# Altium schematic symbol library 40xx.SCHLIB: 174 symbols
Pins are listed as number, name and electrical type; pins without a type are passive.

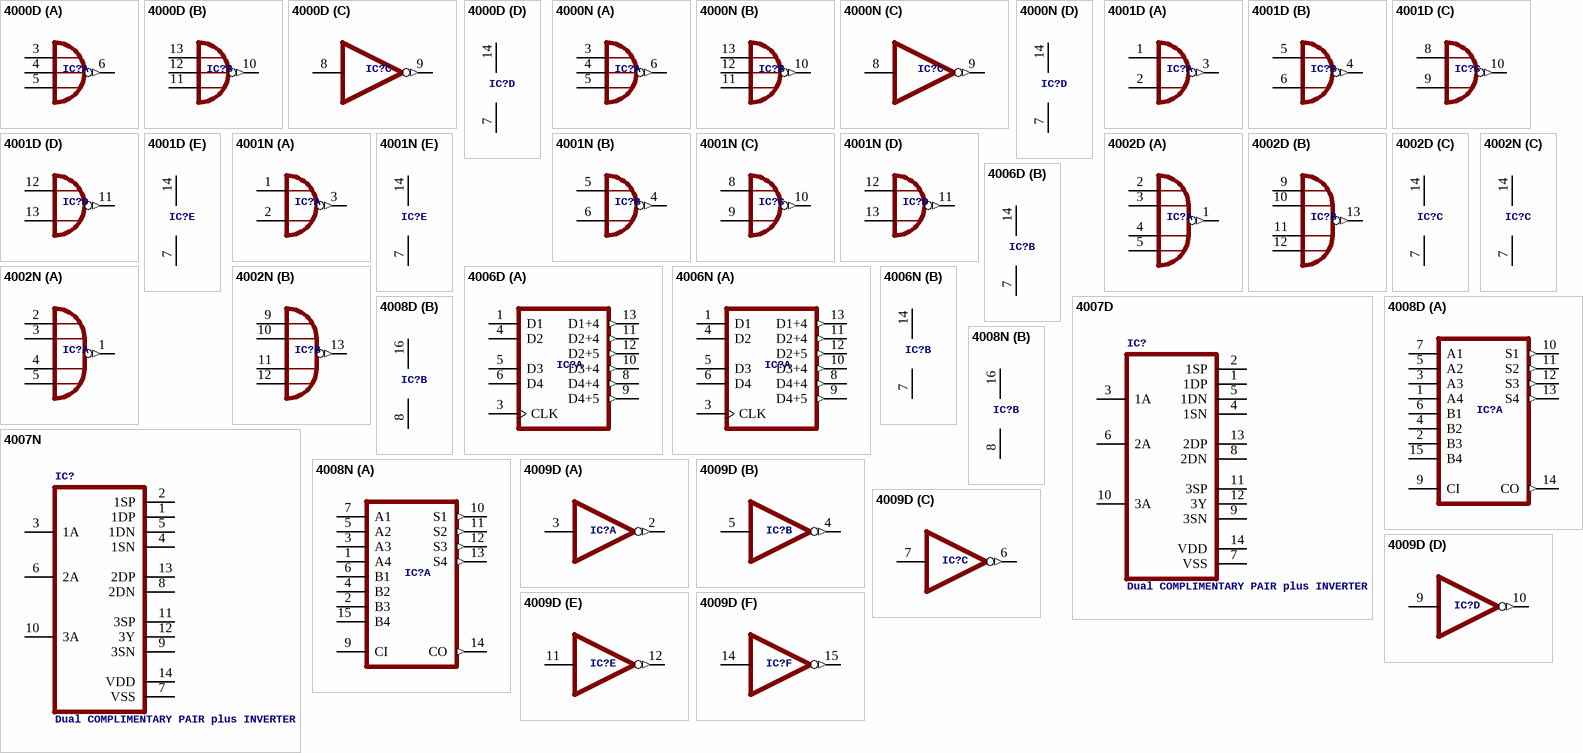
[diagram p0: symbols 4000D to 4009D]

## 4000D
designator IC?, comment Dual 3-input NOR & INVERTER  (value not drawn)
footprint SO14
part A pins: 3 I0, 4 I1, 5 I2, 6 O (out)
part B pins: 10 O (out), 11 I2, 12 I1, 13 I0
part C pins: 8 I, 9 O (out)
part D pins: 7 VSS (power), 14 VDD (power)

## 4000N
designator IC?, comment Dual 3-input NOR & INVERTER  (value not drawn)
footprint DIL14
part A pins: 3 I0, 4 I1, 5 I2, 6 O (out)
part B pins: 10 O (out), 11 I2, 12 I1, 13 I0
part C pins: 8 I, 9 O (out)
part D pins: 7 VSS (power), 14 VDD (power)

## 4001D
designator IC?, comment Quad 2-input NOR  (value not drawn)
footprint SO14
part A pins: 1 I0, 2 I1, 3 O (out)
part B pins: 4 O (out), 5 I0, 6 I1
part C pins: 8 I0, 9 I1, 10 O (out)
part D pins: 11 O (out), 12 I0, 13 I1
part E pins: 7 VSS (power), 14 VDD (power)

## 4001N
designator IC?, comment Quad 2-input NOR  (value not drawn)
footprint DIL14
part A pins: 1 I0, 2 I1, 3 O (out)
part B pins: 4 O (out), 5 I0, 6 I1
part C pins: 8 I0, 9 I1, 10 O (out)
part D pins: 11 O (out), 12 I0, 13 I1
part E pins: 7 VSS (power), 14 VDD (power)

## 4002D
designator IC?, comment 4-input NOR  (value not drawn)
footprint SO14
part A pins: 1 O (out), 2 I0, 3 I1, 4 I2, 5 I3
part B pins: 9 I0, 10 I1, 11 I2, 12 I3, 13 O (out)
part C pins: 7 VSS (power), 14 VDD (power)

## 4002N
designator IC?, comment 4-input NOR  (value not drawn)
footprint DIL14
part A pins: 1 O (out), 2 I0, 3 I1, 4 I2, 5 I3
part B pins: 9 I0, 10 I1, 11 I2, 12 I3, 13 O (out)
part C pins: 7 VSS (power), 14 VDD (power)

## 4006D
designator IC?, comment 18-bit static SHIFT REGISTER  (value not drawn)
footprint SO14
part A pins: 1 D1, 3 CLK, 4 D2, 5 D3, 6 D4, 8 D4+4 (out), 9 D4+5 (out), 10 D3+4 (out), 11 D2+4 (out), 12 D2+5 (out), 13 D1+4 (out)
part B pins: 7 VSS (power), 14 VDD (power)

## 4006N
designator IC?, comment 18-bit static SHIFT REGISTER  (value not drawn)
footprint DIL14
part A pins: 1 D1, 3 CLK, 4 D2, 5 D3, 6 D4, 8 D4+4 (out), 9 D4+5 (out), 10 D3+4 (out), 11 D2+4 (out), 12 D2+5 (out), 13 D1+4 (out)
part B pins: 7 VSS (power), 14 VDD (power)

## 4007D
designator IC?, comment Dual COMPLIMENTARY PAIR plus INVERTER
footprint SO14
pins: 1 1DP (oc), 2 1SP (oc), 3 1A, 4 1SN (oc), 5 1DN (oc), 6 2A, 7 VSS, 8 2DN, 9 3SN, 10 3A, 11 3SP, 12 3Y, 13 2DP, 14 VDD

## 4007N
designator IC?, comment Dual COMPLIMENTARY PAIR plus INVERTER
footprint DIL14
pins: 1 1DP (oc), 2 1SP (oc), 3 1A, 4 1SN (oc), 5 1DN (oc), 6 2A, 7 VSS, 8 2DN, 9 3SN, 10 3A, 11 3SP, 12 3Y, 13 2DP, 14 VDD

## 4008D
designator IC?, comment 4-bit full ADDER  (value not drawn)
footprint SO16
part A pins: 1 A4, 2 B3, 3 A3, 4 B2, 5 A2, 6 B1, 7 A1, 9 CI, 10 S1 (out), 11 S2 (out), 12 S3 (out), 13 S4 (out), 14 CO (out), 15 B4
part B pins: 8 VSS (power), 16 VDD (power)

## 4008N
designator IC?, comment 4-bit full ADDER  (value not drawn)
footprint DIL16
part A pins: 1 A4, 2 B3, 3 A3, 4 B2, 5 A2, 6 B1, 7 A1, 9 CI, 10 S1 (out), 11 S2 (out), 12 S3 (out), 13 S4 (out), 14 CO (out), 15 B4
part B pins: 8 VSS (power), 16 VDD (power)

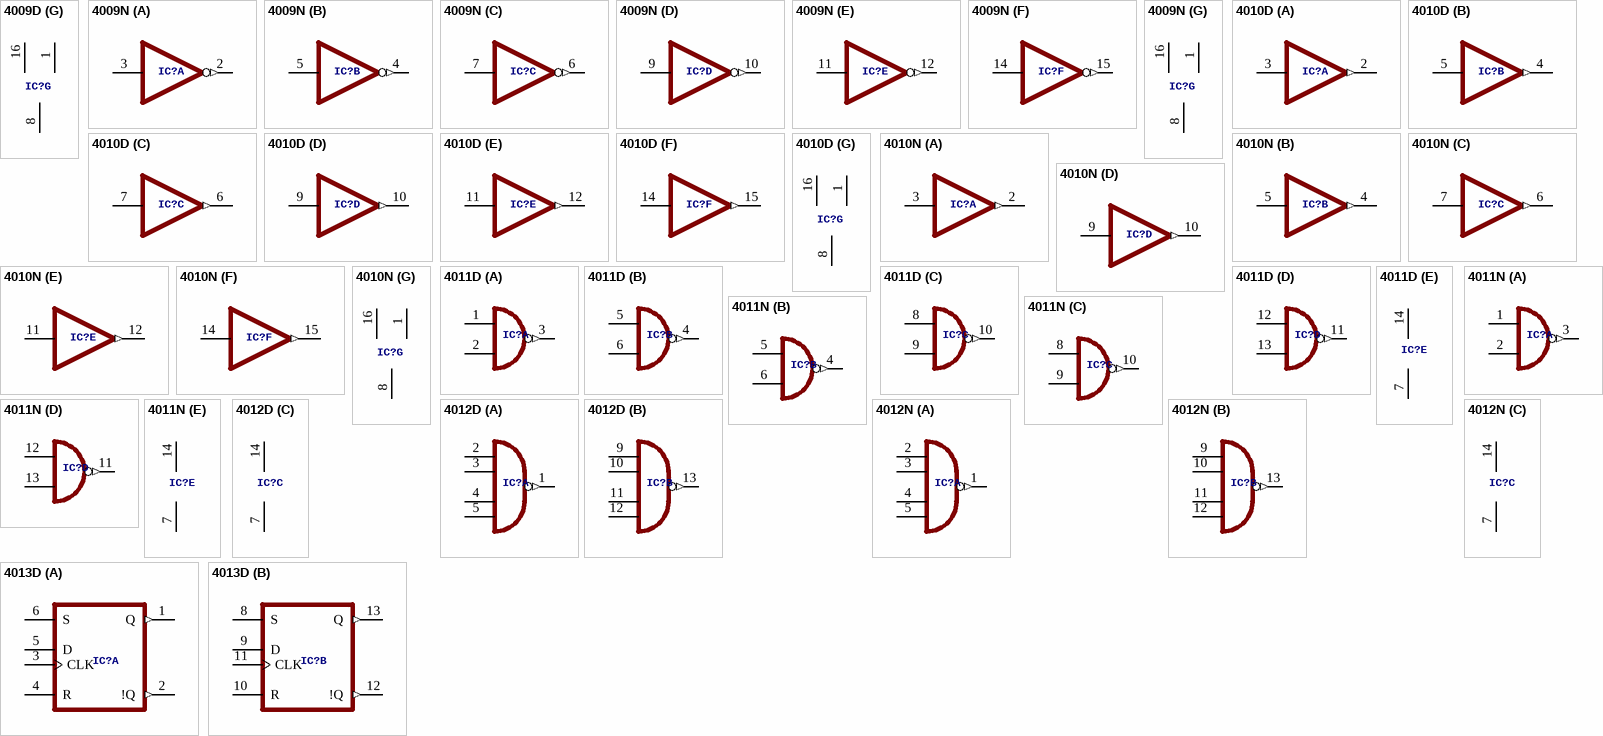
[diagram p1: symbols 4009D to 4013D]

## 4009D
designator IC?, comment Hex BUFFER, inverting  (value not drawn)
footprint SO16
part A pins: 2 O (out), 3 I
part B pins: 4 O (out), 5 I
part C pins: 6 O (out), 7 I
part D pins: 9 I, 10 O (out)
part E pins: 11 I, 12 O (out)
part F pins: 14 I, 15 O (out)
part G pins: 1 VCC (power), 8 VSS (power), 16 VDD (power)

## 4009N
designator IC?, comment Hex BUFFER, inverting  (value not drawn)
footprint DIL16
part A pins: 2 O (out), 3 I
part B pins: 4 O (out), 5 I
part C pins: 6 O (out), 7 I
part D pins: 9 I, 10 O (out)
part E pins: 11 I, 12 O (out)
part F pins: 14 I, 15 O (out)
part G pins: 1 VCC (power), 8 VSS (power), 16 VDD (power)

## 4010D
designator IC?, comment Hex BUFFER, non-inverting   Source: www.fairchildsemi.com CD4010.pdf  Â© 2000 Fairchild Semiconductor Corporation DS005945  (value not drawn)
footprint SO16
part A pins: 2 O (out), 3 I
part B pins: 4 O (out), 5 I
part C pins: 6 O (out), 7 I
part D pins: 9 I, 10 O (out)
part E pins: 11 I, 12 O (out)
part F pins: 14 I, 15 O (out)
part G pins: 1 VCC (power), 8 VSS (power), 16 VDD (power)

## 4010N
designator IC?, comment Hex BUFFER, non-inverting   Source: www.fairchildsemi.com CD4010.pdf  Â© 2000 Fairchild Semiconductor Corporation DS005945  (value not drawn)
footprint DIL16
part A pins: 2 O (out), 3 I
part B pins: 4 O (out), 5 I
part C pins: 6 O (out), 7 I
part D pins: 9 I, 10 O (out)
part E pins: 11 I, 12 O (out)
part F pins: 14 I, 15 O (out)
part G pins: 1 VCC (power), 8 VSS (power), 16 VDD (power)

## 4011D
designator IC?, comment Quad 2-input NAND  (value not drawn)
footprint SO14
part A pins: 1 I0, 2 I1, 3 O (out)
part B pins: 4 O (out), 5 I0, 6 I1
part C pins: 8 I0, 9 I1, 10 O (out)
part D pins: 11 O (out), 12 I0, 13 I1
part E pins: 7 VSS (power), 14 VDD (power)

## 4011N
designator IC?, comment Quad 2-input NAND  (value not drawn)
footprint DIL14
part A pins: 1 I0, 2 I1, 3 O (out)
part B pins: 4 O (out), 5 I0, 6 I1
part C pins: 8 I0, 9 I1, 10 O (out)
part D pins: 11 O (out), 12 I0, 13 I1
part E pins: 7 VSS (power), 14 VDD (power)

## 4012D
designator IC?, comment Dual 4-input NAND  (value not drawn)
footprint SO14
part A pins: 1 O (out), 2 I0, 3 I1, 4 I2, 5 I3
part B pins: 9 I0, 10 I1, 11 I2, 12 I3, 13 O (out)
part C pins: 7 VSS (power), 14 VDD (power)

## 4012N
designator IC?, comment Dual 4-input NAND  (value not drawn)
footprint DIL14
part A pins: 1 O (out), 2 I0, 3 I1, 4 I2, 5 I3
part B pins: 9 I0, 10 I1, 11 I2, 12 I3, 13 O (out)
part C pins: 7 VSS (power), 14 VDD (power)

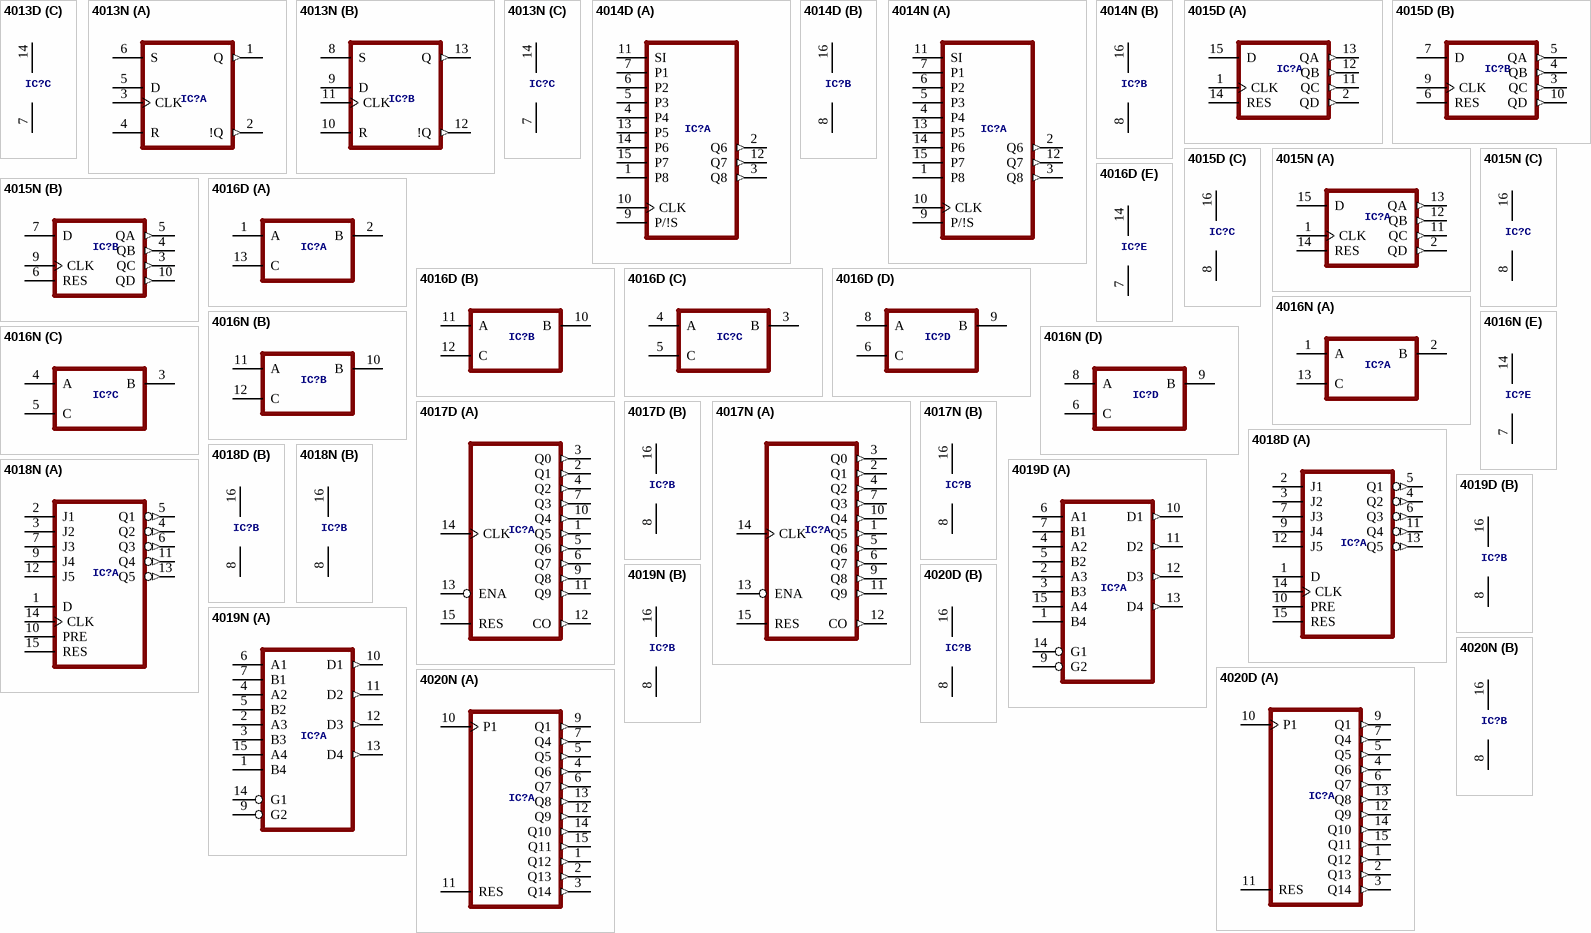
[diagram p2: symbols 4013D to 4020N]

## 4013D
designator IC?, comment Dual D FLIP FLOP, set/reset  (value not drawn)
footprint SO14
part A pins: 1 Q (out), 2 !Q (out), 3 CLK, 4 R, 5 D, 6 S
part B pins: 8 S, 9 D, 10 R, 11 CLK, 12 !Q (out), 13 Q (out)
part C pins: 7 VSS (power), 14 VDD (power)

## 4013N
designator IC?, comment Dual D FLIP FLOP, set/reset  (value not drawn)
footprint DIL14
part A pins: 1 Q (out), 2 !Q (out), 3 CLK, 4 R, 5 D, 6 S
part B pins: 8 S, 9 D, 10 R, 11 CLK, 12 !Q (out), 13 Q (out)
part C pins: 7 VSS (power), 14 VDD (power)

## 4014D
designator IC?, comment 8-bit static SHIFT REGISTER  (value not drawn)
footprint SO16
part A pins: 1 P8, 2 Q6 (out), 3 Q8 (out), 4 P4, 5 P3, 6 P2, 7 P1, 9 P/!S, 10 CLK, 11 SI, 12 Q7 (out), 13 P5, 14 P6, 15 P7
part B pins: 8 VSS (power), 16 VDD (power)

## 4014N
designator IC?, comment 8-bit static SHIFT REGISTER  (value not drawn)
footprint DIL16
part A pins: 1 P8, 2 Q6 (out), 3 Q8 (out), 4 P4, 5 P3, 6 P2, 7 P1, 9 P/!S, 10 CLK, 11 SI, 12 Q7 (out), 13 P5, 14 P6, 15 P7
part B pins: 8 VSS (power), 16 VDD (power)

## 4015D
designator IC?, comment Dual 4-bit static SHIFT REGISTER  (value not drawn)
footprint SO16
part A pins: 1 CLK, 2 QD (out), 11 QC (out), 12 QB (out), 13 QA (out), 14 RES, 15 D
part B pins: 3 QC (out), 4 QB (out), 5 QA (out), 6 RES, 7 D, 9 CLK, 10 QD (out)
part C pins: 8 VSS (power), 16 VDD (power)

## 4015N
designator IC?, comment Dual 4-bit static SHIFT REGISTER  (value not drawn)
footprint DIL16
part A pins: 1 CLK, 2 QD (out), 11 QC (out), 12 QB (out), 13 QA (out), 14 RES, 15 D
part B pins: 3 QC (out), 4 QB (out), 5 QA (out), 6 RES, 7 D, 9 CLK, 10 QD (out)
part C pins: 8 VSS (power), 16 VDD (power)

## 4016D
designator IC?, comment Quad bilateral ANALOG SWITCH  (value not drawn)
footprint SO14
part A pins: 1 A (hiz), 2 B (hiz), 13 C
part B pins: 10 B (hiz), 11 A (hiz), 12 C
part C pins: 3 B (hiz), 4 A (hiz), 5 C
part D pins: 6 C, 8 A (hiz), 9 B (hiz)
part E pins: 7 VSS (power), 14 VDD (power)

## 4016N
designator IC?, comment Quad bilateral ANALOG SWITCH  (value not drawn)
footprint DIL14
part A pins: 1 A (hiz), 2 B (hiz), 13 C
part B pins: 10 B (hiz), 11 A (hiz), 12 C
part C pins: 3 B (hiz), 4 A (hiz), 5 C
part D pins: 6 C, 8 A (hiz), 9 B (hiz)
part E pins: 7 VSS (power), 14 VDD (power)

## 4017D
designator IC?, comment COUNTER/DIVIDER  (value not drawn)
footprint SO16
part A pins: 1 Q5 (out), 2 Q1 (out), 3 Q0 (out), 4 Q2 (out), 5 Q6 (out), 6 Q7 (out), 7 Q3 (out), 9 Q8 (out), 10 Q4 (out), 11 Q9 (out), 12 CO (out), 13 ENA, 14 CLK, 15 RES
part B pins: 8 VSS (power), 16 VDD (power)

## 4017N
designator IC?, comment COUNTER/DIVIDER  (value not drawn)
footprint DIL16
part A pins: 1 Q5 (out), 2 Q1 (out), 3 Q0 (out), 4 Q2 (out), 5 Q6 (out), 6 Q7 (out), 7 Q3 (out), 9 Q8 (out), 10 Q4 (out), 11 Q9 (out), 12 CO (out), 13 ENA, 14 CLK, 15 RES
part B pins: 8 VSS (power), 16 VDD (power)

## 4018D
designator IC?, comment COUNTER/DIVIDER  (value not drawn)
footprint SO16
part A pins: 1 D, 2 J1, 3 J2, 4 Q2 (out), 5 Q1 (out), 6 Q3 (out), 7 J3, 9 J4, 10 PRE, 11 Q4 (out), 12 J5, 13 Q5 (out), 14 CLK, 15 RES
part B pins: 8 VSS (power), 16 VDD (power)

## 4018N
designator IC?, comment COUNTER/DIVIDER  (value not drawn)
footprint DIL16
part A pins: 1 D, 2 J1, 3 J2, 4 Q2 (out), 5 Q1 (out), 6 Q3 (out), 7 J3, 9 J4, 10 PRE, 11 Q4 (out), 12 J5, 13 Q5 (out), 14 CLK, 15 RES
part B pins: 8 VSS (power), 16 VDD (power)

## 4019D
designator IC?, comment Quad AND-OR select gate  (value not drawn)
footprint SO16
part A pins: 1 B4, 2 A3, 3 B3, 4 A2, 5 B2, 6 A1, 7 B1, 9 G2, 10 D1 (out), 11 D2 (out), 12 D3 (out), 13 D4 (out), 14 G1, 15 A4
part B pins: 8 VSS (power), 16 VDD (power)

## 4019N
designator IC?, comment Quad AND-OR select gate  (value not drawn)
footprint DIL16
part A pins: 1 B4, 2 A3, 3 B3, 4 A2, 5 B2, 6 A1, 7 B1, 9 G2, 10 D1 (out), 11 D2 (out), 12 D3 (out), 13 D4 (out), 14 G1, 15 A4
part B pins: 8 VSS (power), 16 VDD (power)

## 4020D
designator IC?, comment 14-stage binary/ripple COUNTER  (value not drawn)
footprint SO16
part A pins: 1 Q12 (out), 2 Q13 (out), 3 Q14 (out), 4 Q6 (out), 5 Q5 (out), 6 Q7 (out), 7 Q4 (out), 9 Q1 (out), 10 P1, 11 RES, 12 Q9 (out), 13 Q8 (out), 14 Q10 (out), 15 Q11 (out)
part B pins: 8 VSS (power), 16 VDD (power)

## 4020N
designator IC?, comment 14-stage binary/ripple COUNTER  (value not drawn)
footprint DIL16
part A pins: 1 Q12 (out), 2 Q13 (out), 3 Q14 (out), 4 Q6 (out), 5 Q5 (out), 6 Q7 (out), 7 Q4 (out), 9 Q1 (out), 10 P1, 11 RES, 12 Q9 (out), 13 Q8 (out), 14 Q10 (out), 15 Q11 (out)
part B pins: 8 VSS (power), 16 VDD (power)

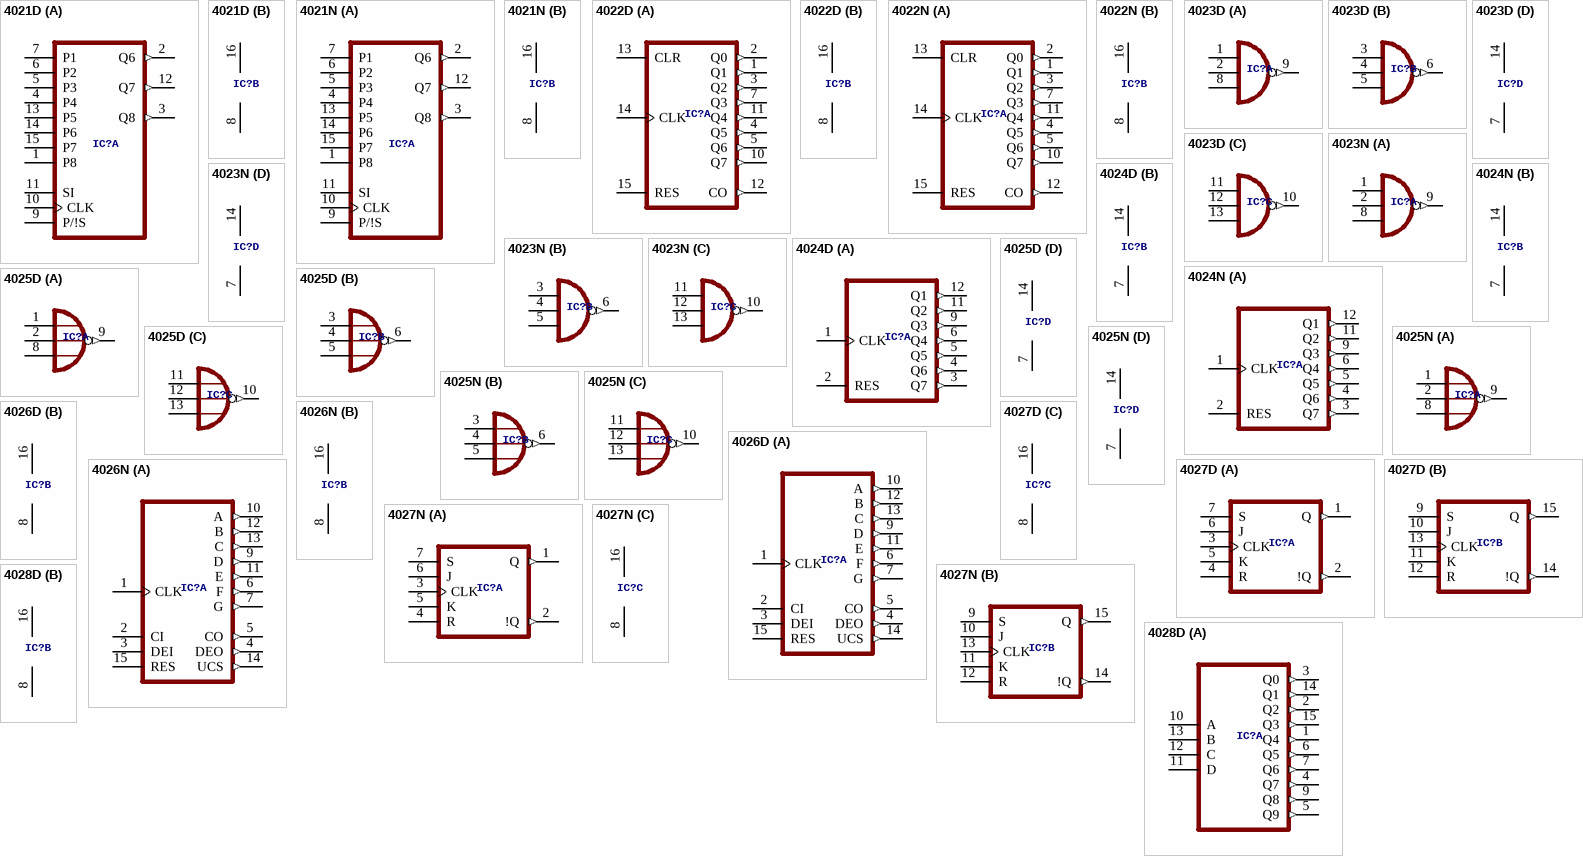
[diagram p3: symbols 4021D to 4028D]

## 4021D
designator IC?, comment 8-bit static SHIFT REGISTER  (value not drawn)
footprint SO16
part A pins: 1 P8, 2 Q6 (out), 3 Q8 (out), 4 P4, 5 P3, 6 P2, 7 P1, 9 P/!S, 10 CLK, 11 SI, 12 Q7 (out), 13 P5, 14 P6, 15 P7
part B pins: 8 VSS (power), 16 VDD (power)

## 4021N
designator IC?, comment 8-bit static SHIFT REGISTER  (value not drawn)
footprint DIL16
part A pins: 1 P8, 2 Q6 (out), 3 Q8 (out), 4 P4, 5 P3, 6 P2, 7 P1, 9 P/!S, 10 CLK, 11 SI, 12 Q7 (out), 13 P5, 14 P6, 15 P7
part B pins: 8 VSS (power), 16 VDD (power)

## 4022D
designator IC?, comment Divide-by 8 COUNTER  (value not drawn)
footprint SO16
part A pins: 1 Q1 (out), 2 Q0 (out), 3 Q2 (out), 4 Q5 (out), 5 Q6 (out), 7 Q3 (out), 10 Q7 (out), 11 Q4 (out), 12 CO (out), 13 CLR, 14 CLK, 15 RES
part B pins: 8 VSS (power), 16 VDD (power)

## 4022N
designator IC?, comment Divide-by 8 COUNTER  (value not drawn)
footprint DIL16
part A pins: 1 Q1 (out), 2 Q0 (out), 3 Q2 (out), 4 Q5 (out), 5 Q6 (out), 7 Q3 (out), 10 Q7 (out), 11 Q4 (out), 12 CO (out), 13 CLR, 14 CLK, 15 RES
part B pins: 8 VSS (power), 16 VDD (power)

## 4023D
designator IC?, comment Triple 3-input NAND  (value not drawn)
footprint SO14
part A pins: 1 I0, 2 I1, 8 I2, 9 O (out)
part B pins: 3 I0, 4 I1, 5 I2, 6 O (out)
part C pins: 10 O (out), 11 I0, 12 I1, 13 I2
part D pins: 7 VSS (power), 14 VDD (power)

## 4023N
designator IC?, comment Triple 3-input NAND  (value not drawn)
footprint DIL14
part A pins: 1 I0, 2 I1, 8 I2, 9 O (out)
part B pins: 3 I0, 4 I1, 5 I2, 6 O (out)
part C pins: 10 O (out), 11 I0, 12 I1, 13 I2
part D pins: 7 VSS (power), 14 VDD (power)

## 4024D
designator IC?, comment 7-stage binary/ripple COUNTER  (value not drawn)
footprint SO14
part A pins: 1 CLK, 2 RES, 3 Q7 (out), 4 Q6 (out), 5 Q5 (out), 6 Q4 (out), 9 Q3 (out), 11 Q2 (out), 12 Q1 (out)
part B pins: 7 VSS (power), 14 VDD (power)

## 4024N
designator IC?, comment 7-stage binary/ripple COUNTER  (value not drawn)
footprint DIL14
part A pins: 1 CLK, 2 RES, 3 Q7 (out), 4 Q6 (out), 5 Q5 (out), 6 Q4 (out), 9 Q3 (out), 11 Q2 (out), 12 Q1 (out)
part B pins: 7 VSS (power), 14 VDD (power)

## 4025D
designator IC?, comment Triple 3-input NOR  (value not drawn)
footprint SO14
part A pins: 1 I0, 2 I1, 8 I2, 9 O (out)
part B pins: 3 I0, 4 I1, 5 I2, 6 O (out)
part C pins: 10 O (out), 11 I0, 12 I1, 13 I2
part D pins: 7 VSS (power), 14 VDD (power)

## 4025N
designator IC?, comment Triple 3-input NOR  (value not drawn)
footprint DIL14
part A pins: 1 I0, 2 I1, 8 I2, 9 O (out)
part B pins: 3 I0, 4 I1, 5 I2, 6 O (out)
part C pins: 10 O (out), 11 I0, 12 I1, 13 I2
part D pins: 7 VSS (power), 14 VDD (power)

## 4026D
designator IC?, comment Decade COUNTER/DIVIDER, 7-seg. outputs  (value not drawn)
footprint SO16
part A pins: 1 CLK, 2 CI, 3 DEI, 4 DEO (out), 5 CO (out), 6 F (out), 7 G (out), 9 D (out), 10 A (out), 11 E (out), 12 B (out), 13 C (out), 14 UCS (out), 15 RES
part B pins: 8 VSS (power), 16 VDD (power)

## 4026N
designator IC?, comment Decade COUNTER/DIVIDER, 7-seg. outputs  (value not drawn)
footprint DIL16
part A pins: 1 CLK, 2 CI, 3 DEI, 4 DEO (out), 5 CO (out), 6 F (out), 7 G (out), 9 D (out), 10 A (out), 11 E (out), 12 B (out), 13 C (out), 14 UCS (out), 15 RES
part B pins: 8 VSS (power), 16 VDD (power)

## 4027D
designator IC?, comment Dual JK FLIP FLOP  (value not drawn)
footprint SO16
part A pins: 1 Q (out), 2 !Q (out), 3 CLK, 4 R, 5 K, 6 J, 7 S
part B pins: 9 S, 10 J, 11 K, 12 R, 13 CLK, 14 !Q (out), 15 Q (out)
part C pins: 8 VSS (power), 16 VDD (power)

## 4027N
designator IC?, comment Dual JK FLIP FLOP  (value not drawn)
footprint DIL16
part A pins: 1 Q (out), 2 !Q (out), 3 CLK, 4 R, 5 K, 6 J, 7 S
part B pins: 9 S, 10 J, 11 K, 12 R, 13 CLK, 14 !Q (out), 15 Q (out)
part C pins: 8 VSS (power), 16 VDD (power)

## 4028D
designator IC?, comment BCD to decimal DECODER  (value not drawn)
footprint SO16
part A pins: 1 Q4 (out), 2 Q2 (out), 3 Q0 (out), 4 Q7 (out), 5 Q9 (out), 6 Q5 (out), 7 Q6 (out), 9 Q8 (out), 10 A, 11 D, 12 C, 13 B, 14 Q1 (out), 15 Q3 (out)
part B pins: 8 VSS (power), 16 VDD (power)

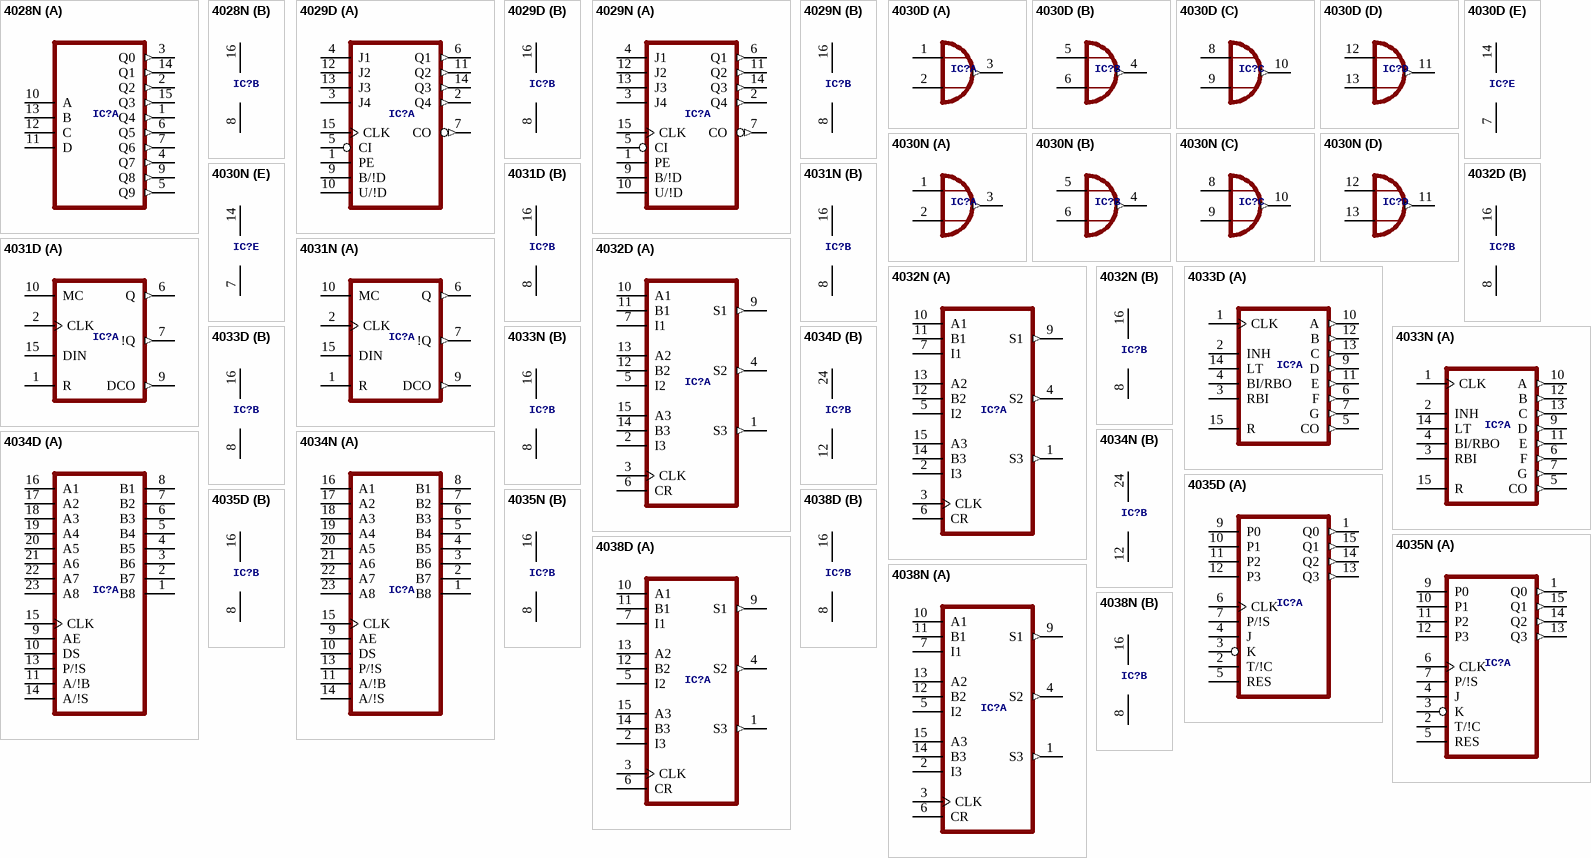
[diagram p4: symbols 4028N to 4038N]

## 4028N
designator IC?, comment BCD to decimal DECODER  (value not drawn)
footprint DIL16
part A pins: 1 Q4 (out), 2 Q2 (out), 3 Q0 (out), 4 Q7 (out), 5 Q9 (out), 6 Q5 (out), 7 Q6 (out), 9 Q8 (out), 10 A, 11 D, 12 C, 13 B, 14 Q1 (out), 15 Q3 (out)
part B pins: 8 VSS (power), 16 VDD (power)

## 4029D
designator IC?, comment Binary/decimal up/down COUNTER  (value not drawn)
footprint SO16
part A pins: 1 PE, 2 Q4 (out), 3 J4, 4 J1, 5 CI, 6 Q1 (out), 7 CO (out), 9 B/!D, 10 U/!D, 11 Q2 (out), 12 J2, 13 J3, 14 Q3 (out), 15 CLK
part B pins: 8 VSS (power), 16 VDD (power)

## 4029N
designator IC?, comment Binary/decimal up/down COUNTER  (value not drawn)
footprint DIL16
part A pins: 1 PE, 2 Q4 (out), 3 J4, 4 J1, 5 CI, 6 Q1 (out), 7 CO (out), 9 B/!D, 10 U/!D, 11 Q2 (out), 12 J2, 13 J3, 14 Q3 (out), 15 CLK
part B pins: 8 VSS (power), 16 VDD (power)

## 4030D
designator IC?, comment Quad XOR  (value not drawn)
footprint SO14
part A pins: 1 I0, 2 I1, 3 O (out)
part B pins: 4 O (out), 5 I0, 6 I1
part C pins: 8 I0, 9 I1, 10 O (out)
part D pins: 11 O (out), 12 I0, 13 I1
part E pins: 7 VSS (power), 14 VDD (power)

## 4030N
designator IC?, comment Quad XOR  (value not drawn)
footprint DIL14
part A pins: 1 I0, 2 I1, 3 O (out)
part B pins: 4 O (out), 5 I0, 6 I1
part C pins: 8 I0, 9 I1, 10 O (out)
part D pins: 11 O (out), 12 I0, 13 I1
part E pins: 7 VSS (power), 14 VDD (power)

## 4031D
designator IC?, comment 64-bit static SHIFT REGISTER  (value not drawn)
footprint SO16
part A pins: 1 R, 2 CLK, 6 Q (out), 7 !Q (out), 9 DCO (out), 10 MC, 15 DIN
part B pins: 8 VSS (power), 16 VDD (power)

## 4031N
designator IC?, comment 64-bit static SHIFT REGISTER  (value not drawn)
footprint DIL16
part A pins: 1 R, 2 CLK, 6 Q (out), 7 !Q (out), 9 DCO (out), 10 MC, 15 DIN
part B pins: 8 VSS (power), 16 VDD (power)

## 4032D
designator IC?, comment Triple serial ADDER, positive logic  (value not drawn)
footprint SO16
part A pins: 1 S3 (out), 2 I3, 3 CLK, 4 S2 (out), 5 I2, 6 CR, 7 I1, 9 S1 (out), 10 A1, 11 B1, 12 B2, 13 A2, 14 B3, 15 A3
part B pins: 8 VSS (power), 16 VDD (power)

## 4032N
designator IC?, comment Triple serial ADDER, positive logic  (value not drawn)
footprint DIL16
part A pins: 1 S3 (out), 2 I3, 3 CLK, 4 S2 (out), 5 I2, 6 CR, 7 I1, 9 S1 (out), 10 A1, 11 B1, 12 B2, 13 A2, 14 B3, 15 A3
part B pins: 8 VSS (power), 16 VDD (power)

## 4033D
designator IC?, comment Decade COUNTER/DIVIDER, 7-seg. outputs  (value not drawn)
footprint SO16
part A pins: 1 CLK, 2 INH, 3 RBI, 4 BI/RBO, 5 CO (out), 6 F (out), 7 G (out), 9 D (out), 10 A (out), 11 E (out), 12 B (out), 13 C (out), 14 LT, 15 R
part B pins: 8 VSS (power), 16 VDD (power)

## 4033N
designator IC?, comment Decade COUNTER/DIVIDER, 7-seg. outputs  (value not drawn)
footprint DIL16
part A pins: 1 CLK, 2 INH, 3 RBI, 4 BI/RBO, 5 CO (out), 6 F (out), 7 G (out), 9 D (out), 10 A (out), 11 E (out), 12 B (out), 13 C (out), 14 LT, 15 R
part B pins: 8 VSS (power), 16 VDD (power)

## 4034D
designator IC?, comment 8-bit bidirectional BUS REGISTER  (value not drawn)
footprint SO24W
part A pins: 1 B8, 2 B7, 3 B6, 4 B5, 5 B4, 6 B3, 7 B2, 8 B1, 9 AE, 10 DS, 11 A/!B, 13 P/!S, 14 A/!S, 15 CLK, 16 A1, 17 A2, 18 A3, 19 A4, 20 A5, 21 A6, 22 A7, 23 A8
part B pins: 12 VSS (power), 24 VDD (power)

## 4034N
designator IC?, comment 8-bit bidirectional BUS REGISTER  (value not drawn)
footprint DIL24-6
part A pins: 1 B8, 2 B7, 3 B6, 4 B5, 5 B4, 6 B3, 7 B2, 8 B1, 9 AE, 10 DS, 11 A/!B, 13 P/!S, 14 A/!S, 15 CLK, 16 A1, 17 A2, 18 A3, 19 A4, 20 A5, 21 A6, 22 A7, 23 A8
part B pins: 12 VSS (power), 24 VDD (power)

## 4035D
designator IC?, comment 4-bit parallel in/out SHIFT REGISTER  (value not drawn)
footprint SO16
part A pins: 1 Q0 (out), 2 T/!C, 3 K, 4 J, 5 RES, 6 CLK, 7 P/!S, 9 P0, 10 P1, 11 P2, 12 P3, 13 Q3 (out), 14 Q2 (out), 15 Q1 (out)
part B pins: 8 VSS (power), 16 VDD (power)

## 4035N
designator IC?, comment 4-bit parallel in/out SHIFT REGISTER  (value not drawn)
footprint DIL16
part A pins: 1 Q0 (out), 2 T/!C, 3 K, 4 J, 5 RES, 6 CLK, 7 P/!S, 9 P0, 10 P1, 11 P2, 12 P3, 13 Q3 (out), 14 Q2 (out), 15 Q1 (out)
part B pins: 8 VSS (power), 16 VDD (power)

## 4038D
designator IC?, comment Triple serial ADDER, negative logic  (value not drawn)
footprint SO16
part A pins: 1 S3 (out), 2 I3, 3 CLK, 4 S2 (out), 5 I2, 6 CR, 7 I1, 9 S1 (out), 10 A1, 11 B1, 12 B2, 13 A2, 14 B3, 15 A3
part B pins: 8 VSS (power), 16 VDD (power)

## 4038N
designator IC?, comment Triple serial ADDER, negative logic  (value not drawn)
footprint DIL16
part A pins: 1 S3 (out), 2 I3, 3 CLK, 4 S2 (out), 5 I2, 6 CR, 7 I1, 9 S1 (out), 10 A1, 11 B1, 12 B2, 13 A2, 14 B3, 15 A3
part B pins: 8 VSS (power), 16 VDD (power)

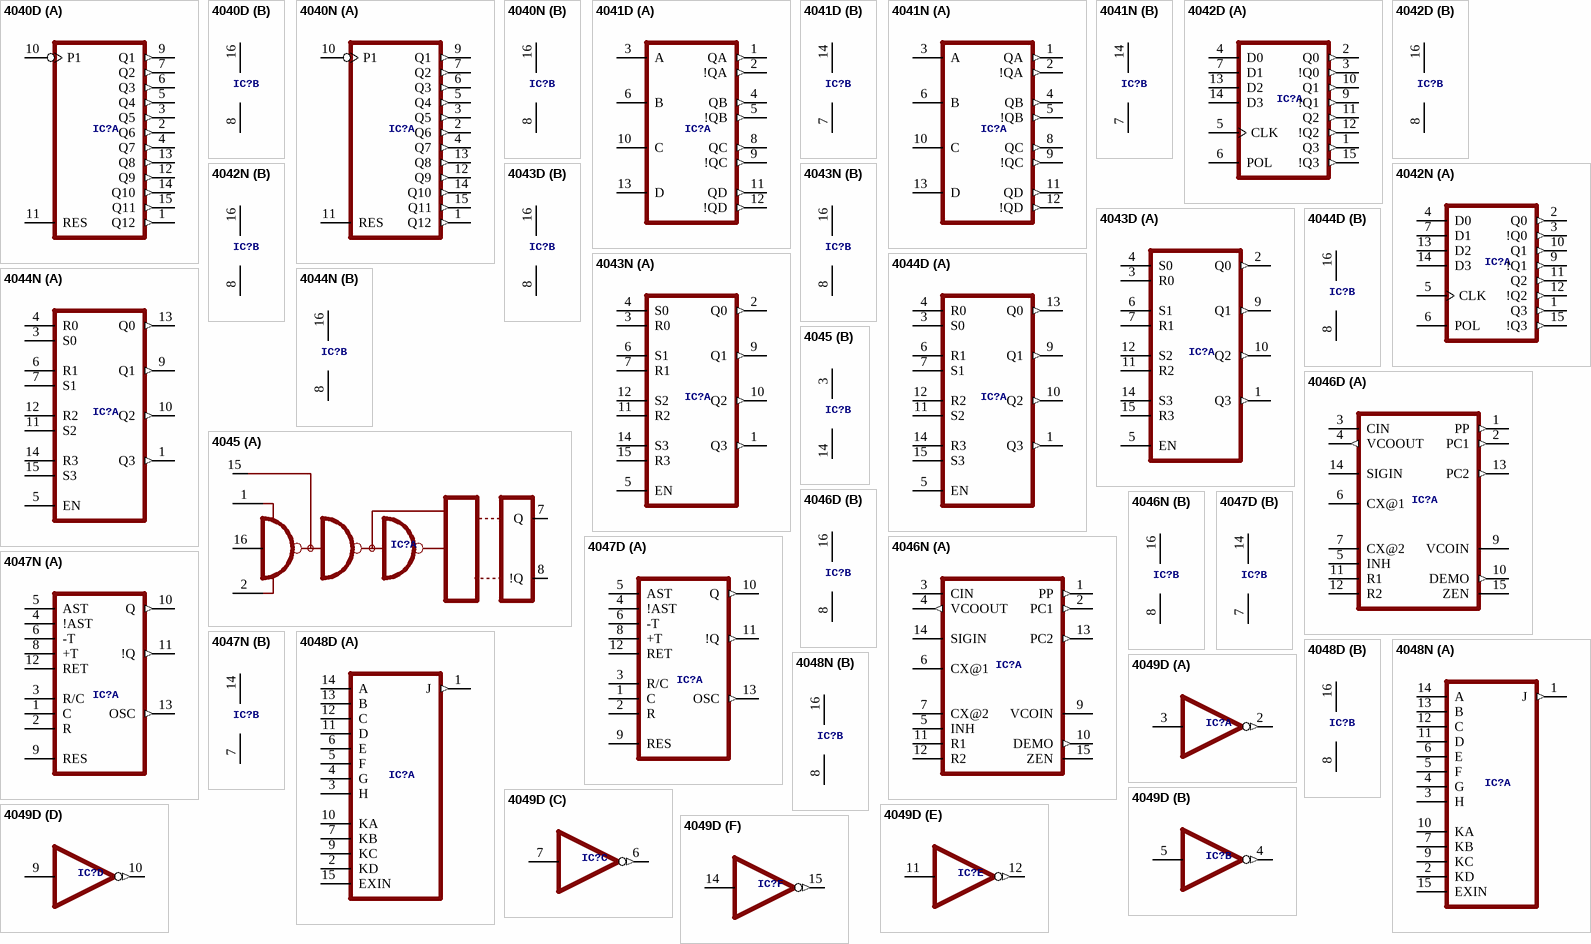
[diagram p5: symbols 4040D to 4049D]

## 4040D
designator IC?, comment 12-stage binary/ripple COUNTER  (value not drawn)
footprint SO16
part A pins: 1 Q12 (out), 2 Q6 (out), 3 Q5 (out), 4 Q7 (out), 5 Q4 (out), 6 Q3 (out), 7 Q2 (out), 9 Q1 (out), 10 P1, 11 RES, 12 Q9 (out), 13 Q8 (out), 14 Q10 (out), 15 Q11 (out)
part B pins: 8 VSS (power), 16 VDD (power)

## 4040N
designator IC?, comment 12-stage binary/ripple COUNTER  (value not drawn)
footprint DIL16
part A pins: 1 Q12 (out), 2 Q6 (out), 3 Q5 (out), 4 Q7 (out), 5 Q4 (out), 6 Q3 (out), 7 Q2 (out), 9 Q1 (out), 10 P1, 11 RES, 12 Q9 (out), 13 Q8 (out), 14 Q10 (out), 15 Q11 (out)
part B pins: 8 VSS (power), 16 VDD (power)

## 4041D
designator IC?, comment Quad true/complement BUFFER  (value not drawn)
footprint SO14
part A pins: 1 QA (out), 2 !QA (out), 3 A, 4 QB (out), 5 !QB (out), 6 B, 8 QC (out), 9 !QC (out), 10 C, 11 QD (out), 12 !QD (out), 13 D
part B pins: 7 VSS (power), 14 VDD (power)

## 4041N
designator IC?, comment Quad true/complement BUFFER  (value not drawn)
footprint DIL14
part A pins: 1 QA (out), 2 !QA (out), 3 A, 4 QB (out), 5 !QB (out), 6 B, 8 QC (out), 9 !QC (out), 10 C, 11 QD (out), 12 !QD (out), 13 D
part B pins: 7 VSS (power), 14 VDD (power)

## 4042D
designator IC?, comment Quad clocked D LATCH  (value not drawn)
footprint SO16
part A pins: 1 Q3 (out), 2 Q0 (out), 3 !Q0 (out), 4 D0, 5 CLK, 6 POL, 7 D1, 9 !Q1 (out), 10 Q1 (out), 11 Q2 (out), 12 !Q2 (out), 13 D2, 14 D3, 15 !Q3 (out)
part B pins: 8 VSS (power), 16 VDD (power)

## 4042N
designator IC?, comment Quad clocked D LATCH  (value not drawn)
footprint DIL16
part A pins: 1 Q3 (out), 2 Q0 (out), 3 !Q0 (out), 4 D0, 5 CLK, 6 POL, 7 D1, 9 !Q1 (out), 10 Q1 (out), 11 Q2 (out), 12 !Q2 (out), 13 D2, 14 D3, 15 !Q3 (out)
part B pins: 8 VSS (power), 16 VDD (power)

## 4043D
designator IC?, comment Quad 3-state NOR R/S LATCH  (value not drawn)
footprint SO16
part A pins: 1 Q3 (out), 2 Q0 (out), 3 R0, 4 S0, 5 EN, 6 S1, 7 R1, 9 Q1 (out), 10 Q2 (out), 11 R2, 12 S2, 14 S3, 15 R3
part B pins: 8 VSS (power), 16 VDD (power)

## 4043N
designator IC?, comment Quad 3-state NOR R/S LATCH  (value not drawn)
footprint DIL16
part A pins: 1 Q3 (out), 2 Q0 (out), 3 R0, 4 S0, 5 EN, 6 S1, 7 R1, 9 Q1 (out), 10 Q2 (out), 11 R2, 12 S2, 14 S3, 15 R3
part B pins: 8 VSS (power), 16 VDD (power)

## 4044D
designator IC?, comment Quad 3-state NAND R/S LATCH  (value not drawn)
footprint SO16
part A pins: 1 Q3 (out), 3 S0, 4 R0, 5 EN, 6 R1, 7 S1, 9 Q1 (out), 10 Q2 (out), 11 S2, 12 R2, 13 Q0 (out), 14 R3, 15 S3
part B pins: 8 VSS (power), 16 VDD (power)

## 4044N
designator IC?, comment Quad 3-state NAND R/S LATCH  (value not drawn)
footprint DIL16
part A pins: 1 Q3 (out), 3 S0, 4 R0, 5 EN, 6 R1, 7 S1, 9 Q1 (out), 10 Q2 (out), 11 S2, 12 R2, 13 Q0 (out), 14 R3, 15 S3
part B pins: 8 VSS (power), 16 VDD (power)

## 4045
designator IC?, comment 21 -Stage Counter   Source: www.radanpro.com/el/datasheets_cmos.htm cd_4045.pdf      Type Manufatk.	   4045BDC	FCH	   4045BDM	FCH	   40458BFC	FCH	   4045BFM	FCH	   4045BPC	FCH	   CD4045AD	RCA	   CD4045AE	RCA	   CD4045AF	RCA	   CD4045AH	RCA	   CD4045AK	RCA	   CD4045BD	RCA	   CD4045BE	RCA	   CD4045BF	RCA	   CD4045BH	RCA	   CD045BK	SCA	   HCC4045BD	SCA	   HCC4045BF	SGS	   HCC4045BK	SGS	   HCF4045BE	SGS	   HCF4045BF	SGS  (value not drawn)
footprint DIL16
part A pins: 1 SP, 2 SN, 7 Q, 8 !Q, 15 T0, 16 T1
part B pins: 3 VDD (power), 14 VSS (power)

## 4046D
designator IC?, comment Micropower PLL  (value not drawn)
footprint SO16
part A pins: 1 PP (out), 2 PC1 (out), 3 CIN, 4 VCOOUT (out), 5 INH, 6 CX@1, 7 CX@2, 9 VCOIN, 10 DEMO (out), 11 R1, 12 R2, 13 PC2 (out), 14 SIGIN, 15 ZEN
part B pins: 8 VSS (power), 16 VDD (power)

## 4046N
designator IC?, comment Micropower PLL  (value not drawn)
footprint DIL16
part A pins: 1 PP (out), 2 PC1 (out), 3 CIN, 4 VCOOUT (out), 5 INH, 6 CX@1, 7 CX@2, 9 VCOIN, 10 DEMO (out), 11 R1, 12 R2, 13 PC2 (out), 14 SIGIN, 15 ZEN
part B pins: 8 VSS (power), 16 VDD (power)

## 4047D
designator IC?, comment LP monostable/astable MULTIVIBRATOR  (value not drawn)
footprint SO14
part A pins: 1 C, 2 R, 3 R/C, 4 !AST, 5 AST, 6 -T, 8 +T, 9 RES, 10 Q (out), 11 !Q (out), 12 RET, 13 OSC (out)
part B pins: 7 VSS (power), 14 VDD (power)

## 4047N
designator IC?, comment LP monostable/astable MULTIVIBRATOR  (value not drawn)
footprint DIL14
part A pins: 1 C, 2 R, 3 R/C, 4 !AST, 5 AST, 6 -T, 8 +T, 9 RES, 10 Q (out), 11 !Q (out), 12 RET, 13 OSC (out)
part B pins: 7 VSS (power), 14 VDD (power)

## 4048D
designator IC?, comment Expandable 8-input GATE  (value not drawn)
footprint SO16
part A pins: 1 J (out), 2 KD, 3 H, 4 G, 5 F, 6 E, 7 KB, 9 KC, 10 KA, 11 D, 12 C, 13 B, 14 A, 15 EXIN
part B pins: 8 VSS (power), 16 VDD (power)

## 4048N
designator IC?, comment Expandable 8-input GATE  (value not drawn)
footprint DIL16
part A pins: 1 J (out), 2 KD, 3 H, 4 G, 5 F, 6 E, 7 KB, 9 KC, 10 KA, 11 D, 12 C, 13 B, 14 A, 15 EXIN
part B pins: 8 VSS (power), 16 VDD (power)

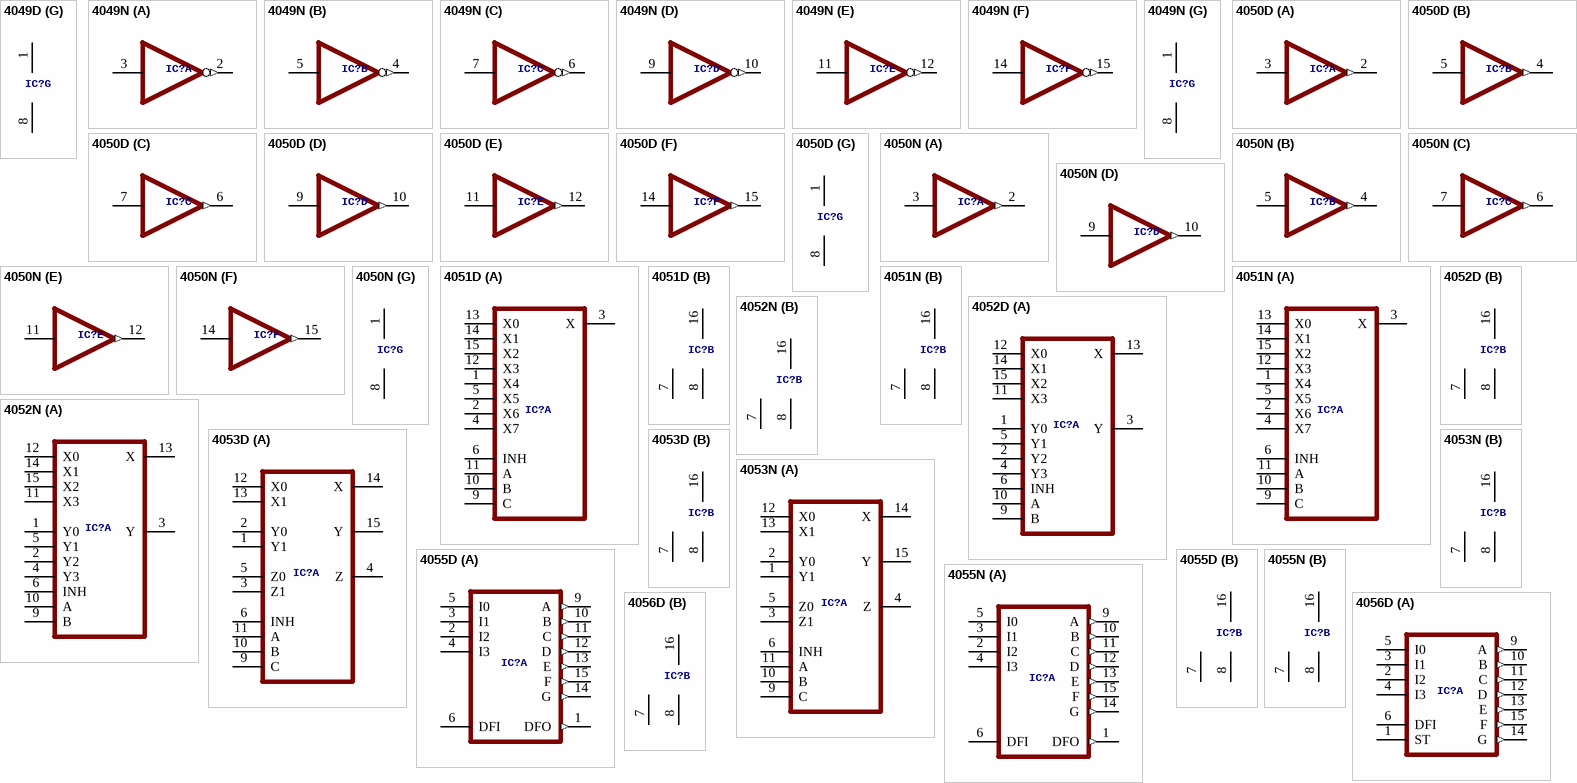
[diagram p6: symbols 4049D to 4056D]

## 4049D
designator IC?, comment Hex inverting BUFFER  (value not drawn)
footprint SO16
part A pins: 2 O (out), 3 I
part B pins: 4 O (out), 5 I
part C pins: 6 O (out), 7 I
part D pins: 9 I, 10 O (out)
part E pins: 11 I, 12 O (out)
part F pins: 14 I, 15 O (out)
part G pins: 1 VDD (power), 8 VSS (power)

## 4049N
designator IC?, comment Hex inverting BUFFER  (value not drawn)
footprint DIL16
part A pins: 2 O (out), 3 I
part B pins: 4 O (out), 5 I
part C pins: 6 O (out), 7 I
part D pins: 9 I, 10 O (out)
part E pins: 11 I, 12 O (out)
part F pins: 14 I, 15 O (out)
part G pins: 1 VDD (power), 8 VSS (power)

## 4050D
designator IC?, comment Hex non-inverting BUFFER  (value not drawn)
footprint SO16
part A pins: 2 O (out), 3 I
part B pins: 4 O (out), 5 I
part C pins: 6 O (out), 7 I
part D pins: 9 I, 10 O (out)
part E pins: 11 I, 12 O (out)
part F pins: 14 I, 15 O (out)
part G pins: 1 VDD (power), 8 VSS (power)

## 4050N
designator IC?, comment Hex non-inverting BUFFER  (value not drawn)
footprint DIL16
part A pins: 2 O (out), 3 I
part B pins: 4 O (out), 5 I
part C pins: 6 O (out), 7 I
part D pins: 9 I, 10 O (out)
part E pins: 11 I, 12 O (out)
part F pins: 14 I, 15 O (out)
part G pins: 1 VDD (power), 8 VSS (power)

## 4051D
designator IC?, comment 8-channel ANALOG MULTIPLEXER  (value not drawn)
footprint SO16
part A pins: 1 X4, 2 X6, 3 X, 4 X7, 5 X5, 6 INH, 9 C, 10 B, 11 A, 12 X3, 13 X0, 14 X1, 15 X2
part B pins: 7 VEE (power), 8 GND (power), 16 VCC (power)

## 4051N
designator IC?, comment 8-channel ANALOG MULTIPLEXER  (value not drawn)
footprint DIL16
part A pins: 1 X4, 2 X6, 3 X, 4 X7, 5 X5, 6 INH, 9 C, 10 B, 11 A, 12 X3, 13 X0, 14 X1, 15 X2
part B pins: 7 VEE (power), 8 GND (power), 16 VCC (power)

## 4052D
designator IC?, comment Dual 4-channel ANALOG MULTIPLEXER  (value not drawn)
footprint SO16
part A pins: 1 Y0, 2 Y2, 3 Y, 4 Y3, 5 Y1, 6 INH, 9 B, 10 A, 11 X3, 12 X0, 13 X, 14 X1, 15 X2
part B pins: 7 VEE (power), 8 GND (power), 16 VCC (power)

## 4052N
designator IC?, comment Dual 4-channel ANALOG MULTIPLEXER  (value not drawn)
footprint DIL16
part A pins: 1 Y0, 2 Y2, 3 Y, 4 Y3, 5 Y1, 6 INH, 9 B, 10 A, 11 X3, 12 X0, 13 X, 14 X1, 15 X2
part B pins: 7 VEE (power), 8 GND (power), 16 VCC (power)

## 4053D
designator IC?, comment Triple 2-channel ANALOG MULTIPLEXER  (value not drawn)
footprint SO16
part A pins: 1 Y1, 2 Y0, 3 Z1, 4 Z, 5 Z0, 6 INH, 9 C, 10 B, 11 A, 12 X0, 13 X1, 14 X, 15 Y
part B pins: 7 VEE (power), 8 GND (power), 16 VCC (power)

## 4053N
designator IC?, comment Triple 2-channel ANALOG MULTIPLEXER  (value not drawn)
footprint DIL16
part A pins: 1 Y1, 2 Y0, 3 Z1, 4 Z, 5 Z0, 6 INH, 9 C, 10 B, 11 A, 12 X0, 13 X1, 14 X, 15 Y
part B pins: 7 VEE (power), 8 GND (power), 16 VCC (power)

## 4055D
designator IC?, comment BCD to 7-segment LCD DRIVER  (value not drawn)
footprint SO16
part A pins: 1 DFO (out), 2 I2, 3 I1, 4 I3, 5 I0, 6 DFI, 9 A (out), 10 B (out), 11 C (out), 12 D (out), 13 E (out), 14 G (out), 15 F (out)
part B pins: 7 VEE (power), 8 GND (power), 16 VCC (power)

## 4055N
designator IC?, comment BCD to 7-segment LCD DRIVER  (value not drawn)
footprint DIL16
part A pins: 1 DFO (out), 2 I2, 3 I1, 4 I3, 5 I0, 6 DFI, 9 A (out), 10 B (out), 11 C (out), 12 D (out), 13 E (out), 14 G (out), 15 F (out)
part B pins: 7 VEE (power), 8 GND (power), 16 VCC (power)

## 4056D
designator IC?, comment BCD to 7-segment LCD DECODER/DRIVER  (value not drawn)
footprint SO16
part A pins: 1 ST, 2 I2, 3 I1, 4 I3, 5 I0, 6 DFI, 9 A (out), 10 B (out), 11 C (out), 12 D (out), 13 E (out), 14 G (out), 15 F (out)
part B pins: 7 VEE (power), 8 GND (power), 16 VCC (power)

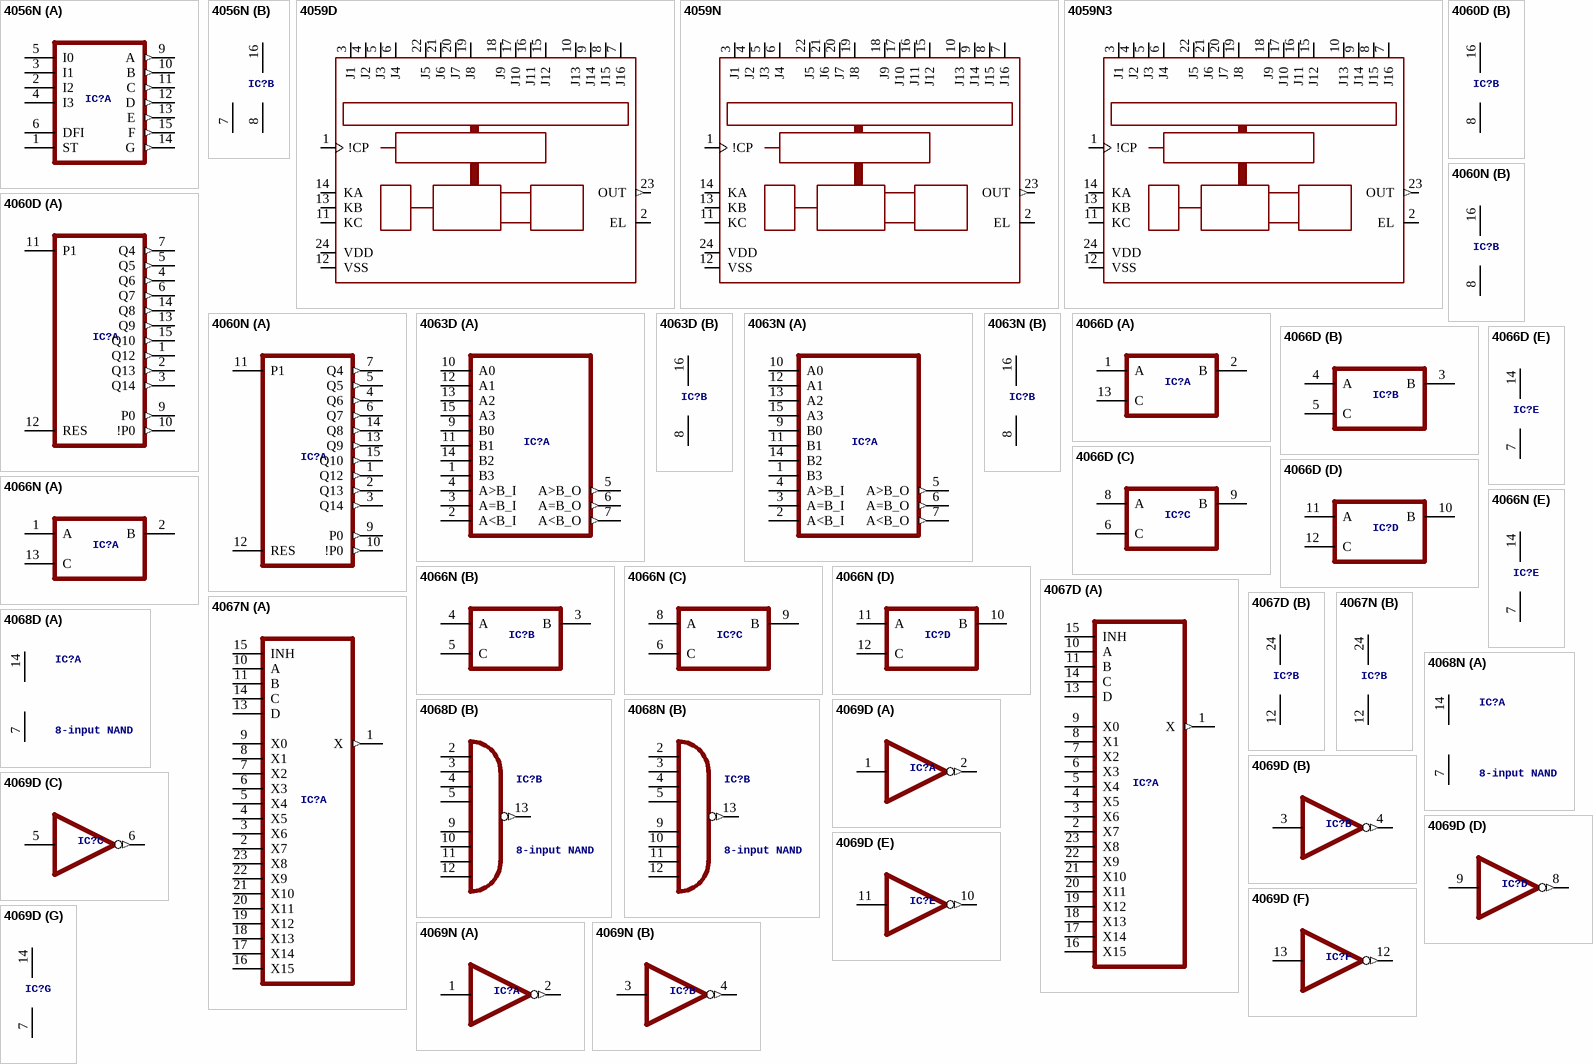
[diagram p7: symbols 4056N to 4069N]

## 4056N
designator IC?, comment BCD to 7-segment LCD DECODER/DRIVER  (value not drawn)
footprint DIL16
part A pins: 1 ST, 2 I2, 3 I1, 4 I3, 5 I0, 6 DFI, 9 A (out), 10 B (out), 11 C (out), 12 D (out), 13 E (out), 14 G (out), 15 F (out)
part B pins: 7 VEE (power), 8 GND (power), 16 VCC (power)

## 4059D
designator IC?, comment Devide by-N-Counter 74HC/HCT4059   Source: www.standardics.nxp.com/products/hc/datasheet/74hc4059.pdf  (value not drawn)
footprint SO24W
pins: 1 !CP, 2 EL, 3 J1, 4 J2, 5 J3, 6 J4, 7 J16, 8 J15, 9 J14, 10 J13, 11 KC, 12 VSS (power), 13 KB, 14 KA, 15 J12, 16 J11, 17 J10, 18 J9, 19 J8, 20 J7, 21 J6, 22 J5, 23 OUT (out), 24 VDD (power)

## 4059N
designator IC?, comment Devide by-N-Counter 74HC/HCT4059   Source: www.standardics.nxp.com/products/hc/datasheet/74hc4059.pdf  (value not drawn)
footprint DIL28-6
pins: 1 !CP, 2 EL, 3 J1, 4 J2, 5 J3, 6 J4, 7 J16, 8 J15, 9 J14, 10 J13, 11 KC, 12 VSS (power), 13 KB, 14 KA, 15 J12, 16 J11, 17 J10, 18 J9, 19 J8, 20 J7, 21 J6, 22 J5, 23 OUT (out), 24 VDD (power)

## 4059N3
designator IC?, comment Devide by-N-Counter 74HC/HCT4059   Source: www.standardics.nxp.com/products/hc/datasheet/74hc4059.pdf  (value not drawn)
footprint DIL28-3
pins: 1 !CP, 2 EL, 3 J1, 4 J2, 5 J3, 6 J4, 7 J16, 8 J15, 9 J14, 10 J13, 11 KC, 12 VSS (power), 13 KB, 14 KA, 15 J12, 16 J11, 17 J10, 18 J9, 19 J8, 20 J7, 21 J6, 22 J5, 23 OUT (out), 24 VDD (power)

## 4060D
designator IC?, comment 14-stage binary/ripple COUNTER  (value not drawn)
footprint SO16
part A pins: 1 Q12 (out), 2 Q13 (out), 3 Q14 (out), 4 Q6 (out), 5 Q5 (out), 6 Q7 (out), 7 Q4 (out), 9 P0 (out), 10 !P0 (out), 11 P1, 12 RES, 13 Q9 (out), 14 Q8 (out), 15 Q10 (out)
part B pins: 8 VSS (power), 16 VDD (power)

## 4060N
designator IC?, comment 14-stage binary/ripple COUNTER  (value not drawn)
footprint DIL16
part A pins: 1 Q12 (out), 2 Q13 (out), 3 Q14 (out), 4 Q6 (out), 5 Q5 (out), 6 Q7 (out), 7 Q4 (out), 9 P0 (out), 10 !P0 (out), 11 P1, 12 RES, 13 Q9 (out), 14 Q8 (out), 15 Q10 (out)
part B pins: 8 VSS (power), 16 VDD (power)

## 4063D
designator IC?, comment 4-bit magnitude COMPARATOR  (value not drawn)
footprint SO16
part A pins: 1 B3, 2 A<B_I, 3 A=B_I, 4 A>B_I, 5 A>B_O (out), 6 A=B_O (out), 7 A<B_O (out), 9 B0, 10 A0, 11 B1, 12 A1, 13 A2, 14 B2, 15 A3
part B pins: 8 VSS (power), 16 VDD (power)

## 4063N
designator IC?, comment 4-bit magnitude COMPARATOR  (value not drawn)
footprint DIL16
part A pins: 1 B3, 2 A<B_I, 3 A=B_I, 4 A>B_I, 5 A>B_O (out), 6 A=B_O (out), 7 A<B_O (out), 9 B0, 10 A0, 11 B1, 12 A1, 13 A2, 14 B2, 15 A3
part B pins: 8 VSS (power), 16 VDD (power)

## 4066D
designator IC?, comment Quad bilateral ANALOG SWITCH  (value not drawn)
footprint SO14
part A pins: 1 A (hiz), 2 B (hiz), 13 C
part B pins: 3 B (hiz), 4 A (hiz), 5 C
part C pins: 6 C, 8 A (hiz), 9 B (hiz)
part D pins: 10 B (hiz), 11 A (hiz), 12 C
part E pins: 7 VSS (power), 14 VDD (power)

## 4066N
designator IC?, comment Quad bilateral ANALOG SWITCH  (value not drawn)
footprint DIL14
part A pins: 1 A (hiz), 2 B (hiz), 13 C
part B pins: 3 B (hiz), 4 A (hiz), 5 C
part C pins: 6 C, 8 A (hiz), 9 B (hiz)
part D pins: 10 B (hiz), 11 A (hiz), 12 C
part E pins: 7 VSS (power), 14 VDD (power)

## 4067D
designator IC?, comment 16-channel ANALOG MULTIPLEXER  (value not drawn)
footprint SO24W
part A pins: 1 X (out), 2 X7, 3 X6, 4 X5, 5 X4, 6 X3, 7 X2, 8 X1, 9 X0, 10 A, 11 B, 13 D, 14 C, 15 INH, 16 X15, 17 X14, 18 X13, 19 X12, 20 X11, 21 X10, 22 X9, 23 X8
part B pins: 12 VSS (power), 24 VDD (power)

## 4067N
designator IC?, comment 16-channel ANALOG MULTIPLEXER  (value not drawn)
footprint DIL24-6
part A pins: 1 X (out), 2 X7, 3 X6, 4 X5, 5 X4, 6 X3, 7 X2, 8 X1, 9 X0, 10 A, 11 B, 13 D, 14 C, 15 INH, 16 X15, 17 X14, 18 X13, 19 X12, 20 X11, 21 X10, 22 X9, 23 X8
part B pins: 12 VSS (power), 24 VDD (power)

## 4068D
designator IC?, comment 8-input NAND
footprint SO14
part A pins: 7 VSS (power), 14 VDD (power)
part B pins: 2 I0, 3 I1, 4 I2, 5 I3, 9 I4, 10 I5, 11 I6, 12 I7, 13 J (out)

## 4068N
designator IC?, comment 8-input NAND
footprint DIL14
part A pins: 7 VSS (power), 14 VDD (power)
part B pins: 2 I0, 3 I1, 4 I2, 5 I3, 9 I4, 10 I5, 11 I6, 12 I7, 13 J (out)

## 4069D
designator IC?, comment Hex INVERTER  (value not drawn)
footprint SO14
part A pins: 1 I, 2 O (out)
part B pins: 3 I, 4 O (out)
part C pins: 5 I, 6 O (out)
part D pins: 8 O (out), 9 I
part E pins: 10 O (out), 11 I
part F pins: 12 O (out), 13 I
part G pins: 7 VSS (power), 14 VDD (power)

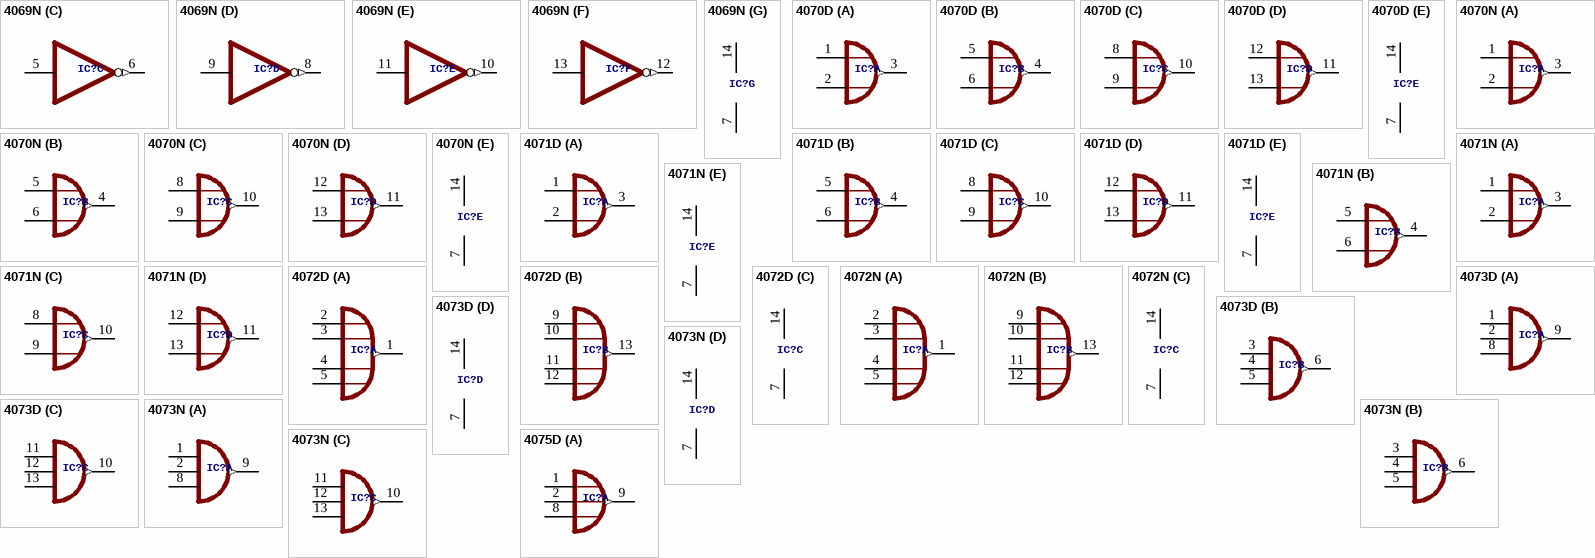
[diagram p8: symbols 4069N to 4075D]

## 4069N
designator IC?, comment Hex INVERTER  (value not drawn)
footprint DIL14
part A pins: 1 I, 2 O (out)
part B pins: 3 I, 4 O (out)
part C pins: 5 I, 6 O (out)
part D pins: 8 O (out), 9 I
part E pins: 10 O (out), 11 I
part F pins: 12 O (out), 13 I
part G pins: 7 VSS (power), 14 VDD (power)

## 4070D
designator IC?, comment Quad 2-input XOR  (value not drawn)
footprint SO14
part A pins: 1 I0, 2 I1, 3 O (out)
part B pins: 4 O (out), 5 I0, 6 I1
part C pins: 8 I0, 9 I1, 10 O (out)
part D pins: 11 O (out), 12 I0, 13 I1
part E pins: 7 VSS (power), 14 VDD (power)

## 4070N
designator IC?, comment Quad 2-input XOR  (value not drawn)
footprint DIL14
part A pins: 1 I0, 2 I1, 3 O (out)
part B pins: 4 O (out), 5 I0, 6 I1
part C pins: 8 I0, 9 I1, 10 O (out)
part D pins: 11 O (out), 12 I0, 13 I1
part E pins: 7 VSS (power), 14 VDD (power)

## 4071D
designator IC?, comment Quad 2-input OR  (value not drawn)
footprint SO14
part A pins: 1 I0, 2 I1, 3 O (out)
part B pins: 4 O (out), 5 I0, 6 I1
part C pins: 8 I0, 9 I1, 10 O (out)
part D pins: 11 O (out), 12 I0, 13 I1
part E pins: 7 VSS (power), 14 VDD (power)

## 4071N
designator IC?, comment Quad 2-input OR  (value not drawn)
footprint DIL14
part A pins: 1 I0, 2 I1, 3 O (out)
part B pins: 4 O (out), 5 I0, 6 I1
part C pins: 8 I0, 9 I1, 10 O (out)
part D pins: 11 O (out), 12 I0, 13 I1
part E pins: 7 VSS (power), 14 VDD (power)

## 4072D
designator IC?, comment Dual 4-input OR  (value not drawn)
footprint SO14
part A pins: 1 O (out), 2 I0, 3 I1, 4 I2, 5 I3
part B pins: 9 I0, 10 I1, 11 I2, 12 I3, 13 O (out)
part C pins: 7 VSS (power), 14 VDD (power)

## 4072N
designator IC?, comment Dual 4-input OR  (value not drawn)
footprint DIL14
part A pins: 1 O (out), 2 I0, 3 I1, 4 I2, 5 I3
part B pins: 9 I0, 10 I1, 11 I2, 12 I3, 13 O (out)
part C pins: 7 VSS (power), 14 VDD (power)

## 4073D
designator IC?, comment Triple 3-input AND  (value not drawn)
footprint SO14
part A pins: 1 I0, 2 I1, 8 I2, 9 O (out)
part B pins: 3 I0, 4 I1, 5 I2, 6 O (out)
part C pins: 10 O (out), 11 I0, 12 I1, 13 I2
part D pins: 7 VSS (power), 14 VDD (power)

## 4073N
designator IC?, comment Triple 3-input AND  (value not drawn)
footprint DIL14
part A pins: 1 I0, 2 I1, 8 I2, 9 O (out)
part B pins: 3 I0, 4 I1, 5 I2, 6 O (out)
part C pins: 10 O (out), 11 I0, 12 I1, 13 I2
part D pins: 7 VSS (power), 14 VDD (power)

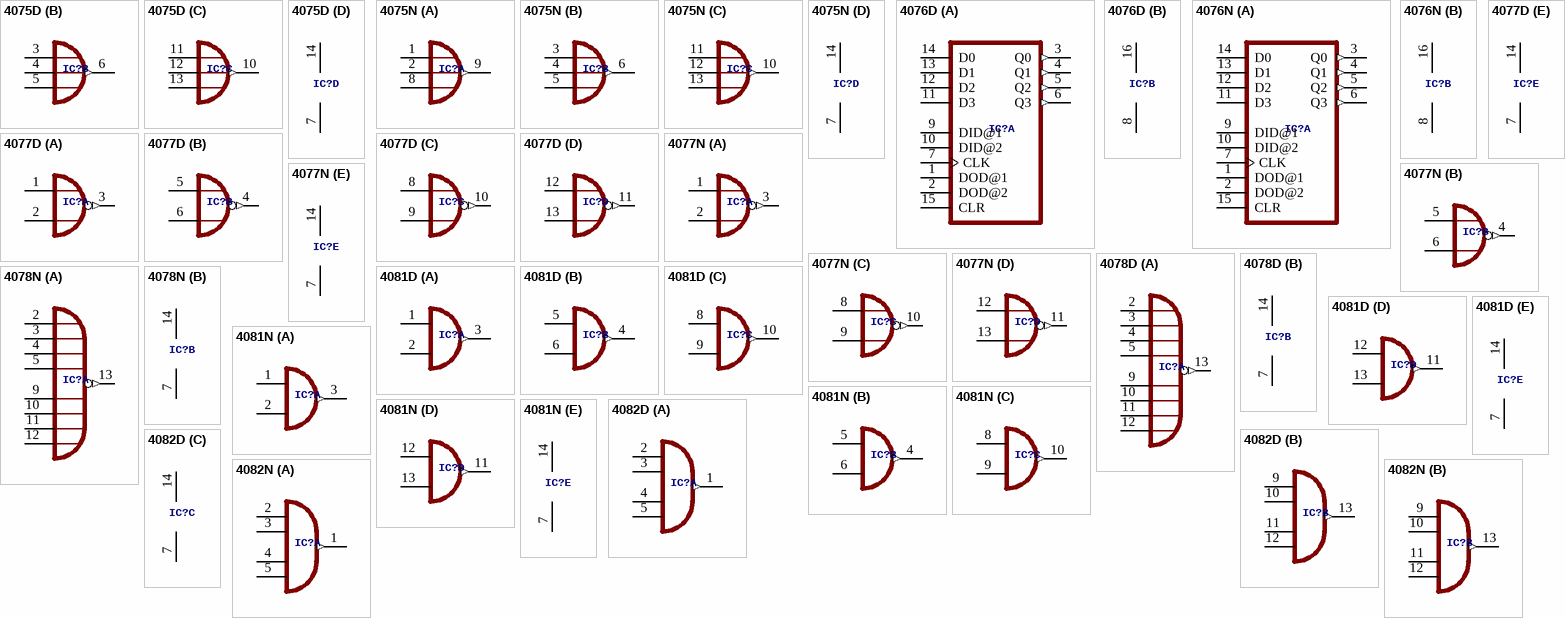
[diagram p9: symbols 4075D to 4082N]

## 4075D
designator IC?, comment Triple 3-input OR  (value not drawn)
footprint SO14
part A pins: 1 I0, 2 I1, 8 I2, 9 O (out)
part B pins: 3 I0, 4 I1, 5 I2, 6 O (out)
part C pins: 10 O (out), 11 I0, 12 I1, 13 I2
part D pins: 7 VSS (power), 14 VDD (power)

## 4075N
designator IC?, comment Triple 3-input OR  (value not drawn)
footprint DIL14
part A pins: 1 I0, 2 I1, 8 I2, 9 O (out)
part B pins: 3 I0, 4 I1, 5 I2, 6 O (out)
part C pins: 10 O (out), 11 I0, 12 I1, 13 I2
part D pins: 7 VSS (power), 14 VDD (power)

## 4076D
designator IC?, comment Quad D-type REGISTER  (value not drawn)
footprint SO16
part A pins: 1 DOD@1, 2 DOD@2, 3 Q0 (out), 4 Q1 (out), 5 Q2 (out), 6 Q3 (out), 7 CLK, 9 DID@1, 10 DID@2, 11 D3, 12 D2, 13 D1, 14 D0, 15 CLR
part B pins: 8 VSS (power), 16 VDD (power)

## 4076N
designator IC?, comment Quad D-type REGISTER  (value not drawn)
footprint DIL16
part A pins: 1 DOD@1, 2 DOD@2, 3 Q0 (out), 4 Q1 (out), 5 Q2 (out), 6 Q3 (out), 7 CLK, 9 DID@1, 10 DID@2, 11 D3, 12 D2, 13 D1, 14 D0, 15 CLR
part B pins: 8 VSS (power), 16 VDD (power)

## 4077D
designator IC?, comment Quad XNOR  (value not drawn)
footprint SO14
part A pins: 1 I0, 2 I1, 3 O (out)
part B pins: 4 O (out), 5 I0, 6 I1
part C pins: 8 I0, 9 I1, 10 O (out)
part D pins: 11 O (out), 12 I0, 13 I1
part E pins: 7 VSS (power), 14 VDD (power)

## 4077N
designator IC?, comment Quad XNOR  (value not drawn)
footprint DIL14
part A pins: 1 I0, 2 I1, 3 O (out)
part B pins: 4 O (out), 5 I0, 6 I1
part C pins: 8 I0, 9 I1, 10 O (out)
part D pins: 11 O (out), 12 I0, 13 I1
part E pins: 7 VSS (power), 14 VDD (power)

## 4078D
designator IC?, comment 8-input NOR  (value not drawn)
footprint SO14
part A pins: 2 I0, 3 I1, 4 I2, 5 I3, 9 I4, 10 I5, 11 I6, 12 I7, 13 J (out)
part B pins: 7 VSS (power), 14 VDD (power)

## 4078N
designator IC?, comment 8-input NOR  (value not drawn)
footprint DIL14
part A pins: 2 I0, 3 I1, 4 I2, 5 I3, 9 I4, 10 I5, 11 I6, 12 I7, 13 J (out)
part B pins: 7 VSS (power), 14 VDD (power)

## 4081D
designator IC?, comment Quad 2-input AND  (value not drawn)
footprint SO14
part A pins: 1 I0, 2 I1, 3 O (out)
part B pins: 4 O (out), 5 I0, 6 I1
part C pins: 8 I0, 9 I1, 10 O (out)
part D pins: 11 O (out), 12 I0, 13 I1
part E pins: 7 VSS (power), 14 VDD (power)

## 4081N
designator IC?, comment Quad 2-input AND  (value not drawn)
footprint DIL14
part A pins: 1 I0, 2 I1, 3 O (out)
part B pins: 4 O (out), 5 I0, 6 I1
part C pins: 8 I0, 9 I1, 10 O (out)
part D pins: 11 O (out), 12 I0, 13 I1
part E pins: 7 VSS (power), 14 VDD (power)

## 4082D
designator IC?, comment Dual 4-input AND  (value not drawn)
footprint SO14
part A pins: 1 O (out), 2 I0, 3 I1, 4 I2, 5 I3
part B pins: 9 I0, 10 I1, 11 I2, 12 I3, 13 O (out)
part C pins: 7 VSS (power), 14 VDD (power)

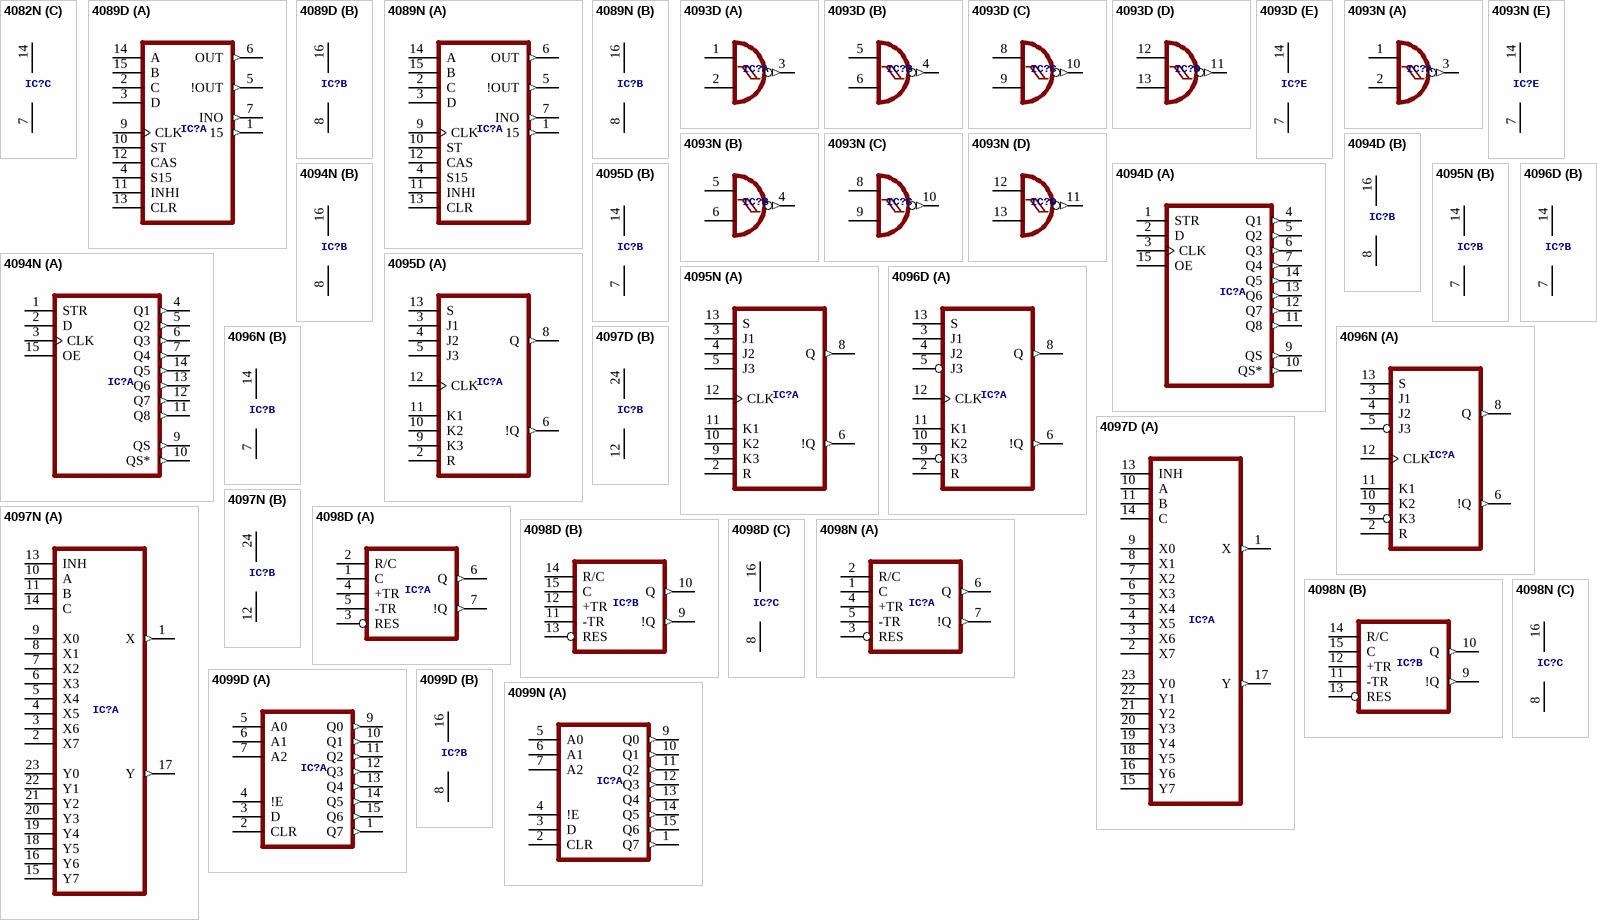
[diagram p10: symbols 4082N to 4099N]

## 4082N
designator IC?, comment Dual 4-input AND  (value not drawn)
footprint DIL14
part A pins: 1 O (out), 2 I0, 3 I1, 4 I2, 5 I3
part B pins: 9 I0, 10 I1, 11 I2, 12 I3, 13 O (out)
part C pins: 7 VSS (power), 14 VDD (power)

## 4089D
designator IC?, comment Binary rate MULTIPLIER  (value not drawn)
footprint SO16
part A pins: 1 15 (out), 2 C, 3 D, 4 S15, 5 !OUT (out), 6 OUT (out), 7 INO (out), 9 CLK, 10 ST, 11 INHI, 12 CAS, 13 CLR, 14 A, 15 B
part B pins: 8 VSS (power), 16 VDD (power)

## 4089N
designator IC?, comment Binary rate MULTIPLIER  (value not drawn)
footprint DIL16
part A pins: 1 15 (out), 2 C, 3 D, 4 S15, 5 !OUT (out), 6 OUT (out), 7 INO (out), 9 CLK, 10 ST, 11 INHI, 12 CAS, 13 CLR, 14 A, 15 B
part B pins: 8 VSS (power), 16 VDD (power)

## 4093D
designator IC?, comment Quad 2-input NAND schmitt trigger  (value not drawn)
footprint SO14
part A pins: 1 I0, 2 I1, 3 O (out)
part B pins: 4 O (out), 5 I0, 6 I1
part C pins: 8 I0, 9 I1, 10 O (out)
part D pins: 11 O (out), 12 I0, 13 I1
part E pins: 7 VSS (power), 14 VDD (power)

## 4093N
designator IC?, comment Quad 2-input NAND schmitt trigger  (value not drawn)
footprint DIL14
part A pins: 1 I0, 2 I1, 3 O (out)
part B pins: 4 O (out), 5 I0, 6 I1
part C pins: 8 I0, 9 I1, 10 O (out)
part D pins: 11 O (out), 12 I0, 13 I1
part E pins: 7 VSS (power), 14 VDD (power)

## 4094D
designator IC?, comment 8-stage SHIFT/STORE REGISTER, tri-state  (value not drawn)
footprint SO16
part A pins: 1 STR, 2 D, 3 CLK, 4 Q1 (out), 5 Q2 (out), 6 Q3 (out), 7 Q4 (out), 9 QS (out), 10 QS* (out), 11 Q8 (out), 12 Q7 (out), 13 Q6 (out), 14 Q5 (out), 15 OE
part B pins: 8 VSS (power), 16 VDD (power)

## 4094N
designator IC?, comment 8-stage SHIFT/STORE REGISTER, tri-state  (value not drawn)
footprint DIL16
part A pins: 1 STR, 2 D, 3 CLK, 4 Q1 (out), 5 Q2 (out), 6 Q3 (out), 7 Q4 (out), 9 QS (out), 10 QS* (out), 11 Q8 (out), 12 Q7 (out), 13 Q6 (out), 14 Q5 (out), 15 OE
part B pins: 8 VSS (power), 16 VDD (power)

## 4095D
designator IC?, comment Non-inverting JK master slave FLIP FLOP  (value not drawn)
footprint SO14
part A pins: 2 R, 3 J1, 4 J2, 5 J3, 6 !Q (out), 8 Q (out), 9 K3, 10 K2, 11 K1, 12 CLK, 13 S
part B pins: 7 VSS (power), 14 VDD (power)

## 4095N
designator IC?, comment Non-inverting JK master slave FLIP FLOP  (value not drawn)
footprint DIL14
part A pins: 2 R, 3 J1, 4 J2, 5 J3, 6 !Q (out), 8 Q (out), 9 K3, 10 K2, 11 K1, 12 CLK, 13 S
part B pins: 7 VSS (power), 14 VDD (power)

## 4096D
designator IC?, comment Inverting gated JK master slave FLIP FLOP  (value not drawn)
footprint SO14
part A pins: 2 R, 3 J1, 4 J2, 5 J3, 6 !Q (out), 8 Q (out), 9 K3, 10 K2, 11 K1, 12 CLK, 13 S
part B pins: 7 VSS (power), 14 VDD (power)

## 4096N
designator IC?, comment Inverting gated JK master slave FLIP FLOP  (value not drawn)
footprint DIL14
part A pins: 2 R, 3 J1, 4 J2, 5 J3, 6 !Q (out), 8 Q (out), 9 K3, 10 K2, 11 K1, 12 CLK, 13 S
part B pins: 7 VSS (power), 14 VDD (power)

## 4097D
designator IC?, comment Dual 8-channel ANALOG MULTIPLEXER  (value not drawn)
footprint SO24W
part A pins: 1 X (out), 2 X7, 3 X6, 4 X5, 5 X4, 6 X3, 7 X2, 8 X1, 9 X0, 10 A, 11 B, 13 INH, 14 C, 15 Y7, 16 Y6, 17 Y (out), 18 Y5, 19 Y4, 20 Y3, 21 Y2, 22 Y1, 23 Y0
part B pins: 12 VSS (power), 24 VDD (power)

## 4097N
designator IC?, comment Dual 8-channel ANALOG MULTIPLEXER  (value not drawn)
footprint DIL24-6
part A pins: 1 X (out), 2 X7, 3 X6, 4 X5, 5 X4, 6 X3, 7 X2, 8 X1, 9 X0, 10 A, 11 B, 13 INH, 14 C, 15 Y7, 16 Y6, 17 Y (out), 18 Y5, 19 Y4, 20 Y3, 21 Y2, 22 Y1, 23 Y0
part B pins: 12 VSS (power), 24 VDD (power)

## 4098D
designator IC?, comment Dual monostable MULTIVIBRATOR   Source: Texas Instruments (Data sheet acquired frm Harris Semiconductor SCHS065) http://pdf1.alldatasheet.com/datasheet-pdf/view/26897/TI/CD4098.html  (value not drawn)
footprint SO16
part A pins: 1 C, 2 R/C, 3 RES, 4 +TR, 5 -TR, 6 Q (out), 7 !Q (out)
part B pins: 9 !Q (out), 10 Q (out), 11 -TR, 12 +TR, 13 RES, 14 R/C, 15 C
part C pins: 8 VSS (power), 16 VDD (power)

## 4098N
designator IC?, comment Dual monostable MULTIVIBRATOR   Source: Texas Instruments (Data sheet acquired frm Harris Semiconductor SCHS065) http://pdf1.alldatasheet.com/datasheet-pdf/view/26897/TI/CD4098.html  (value not drawn)
footprint DIL16
part A pins: 1 C, 2 R/C, 3 RES, 4 +TR, 5 -TR, 6 Q (out), 7 !Q (out)
part B pins: 9 !Q (out), 10 Q (out), 11 -TR, 12 +TR, 13 RES, 14 R/C, 15 C
part C pins: 8 VSS (power), 16 VDD (power)

## 4099D
designator IC?, comment 8-Bit addressable LATCH  (value not drawn)
footprint SO16
part A pins: 1 Q7 (out), 2 CLR, 3 D, 4 !E, 5 A0, 6 A1, 7 A2, 9 Q0 (out), 10 Q1 (out), 11 Q2 (out), 12 Q3 (out), 13 Q4 (out), 14 Q5 (out), 15 Q6 (out)
part B pins: 8 VSS (power), 16 VDD (power)

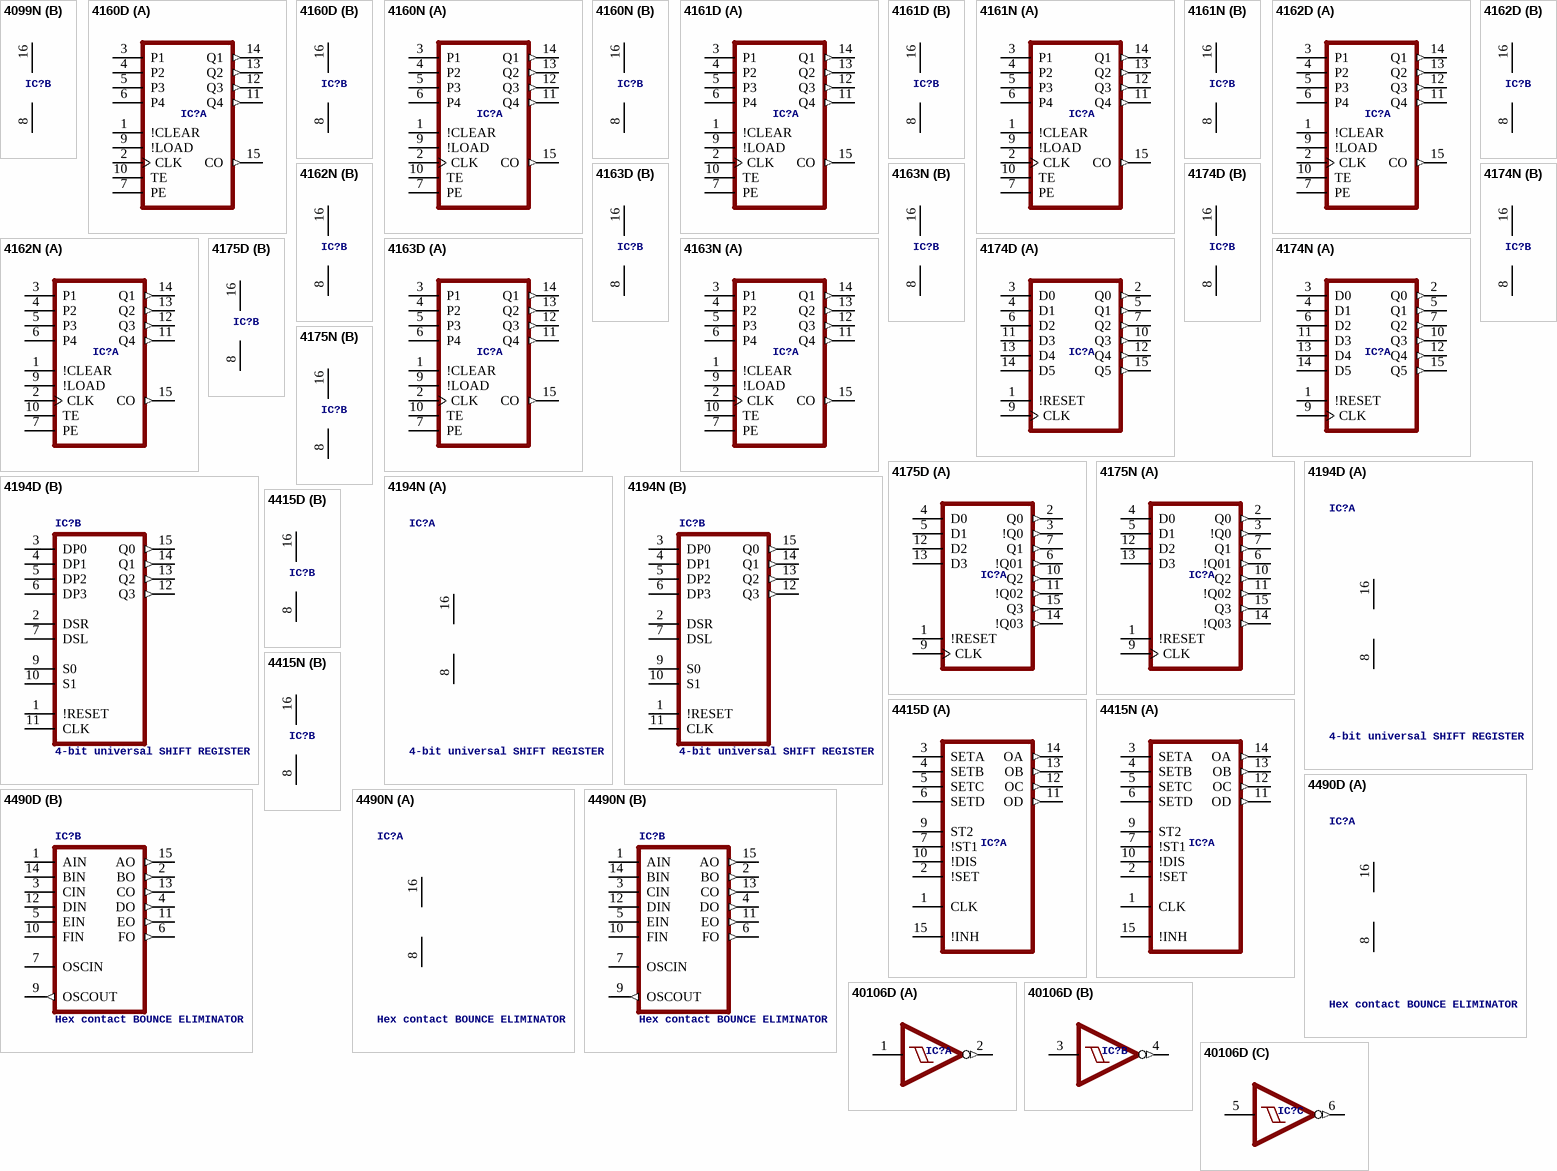
[diagram p11: symbols 4099N to 40106D]

## 4099N
designator IC?, comment 8-Bit addressable LATCH  (value not drawn)
footprint DIL16
part A pins: 1 Q7 (out), 2 CLR, 3 D, 4 !E, 5 A0, 6 A1, 7 A2, 9 Q0 (out), 10 Q1 (out), 11 Q2 (out), 12 Q3 (out), 13 Q4 (out), 14 Q5 (out), 15 Q6 (out)
part B pins: 8 VSS (power), 16 VDD (power)

## 4160D
designator IC?, comment Synchronous presettable BCD COUNTER  (value not drawn)
footprint SO16
part A pins: 1 !CLEAR, 2 CLK, 3 P1, 4 P2, 5 P3, 6 P4, 7 PE, 9 !LOAD, 10 TE, 11 Q4 (out), 12 Q3 (out), 13 Q2 (out), 14 Q1 (out), 15 CO (out)
part B pins: 8 VSS (power), 16 VDD (power)

## 4160N
designator IC?, comment Synchronous presettable BCD COUNTER  (value not drawn)
footprint DIL16
part A pins: 1 !CLEAR, 2 CLK, 3 P1, 4 P2, 5 P3, 6 P4, 7 PE, 9 !LOAD, 10 TE, 11 Q4 (out), 12 Q3 (out), 13 Q2 (out), 14 Q1 (out), 15 CO (out)
part B pins: 8 VSS (power), 16 VDD (power)

## 4161D
designator IC?, comment Synchronous presettable 4-bit binary COUNTER  (value not drawn)
footprint SO16
part A pins: 1 !CLEAR, 2 CLK, 3 P1, 4 P2, 5 P3, 6 P4, 7 PE, 9 !LOAD, 10 TE, 11 Q4 (out), 12 Q3 (out), 13 Q2 (out), 14 Q1 (out), 15 CO (out)
part B pins: 8 VSS (power), 16 VDD (power)

## 4161N
designator IC?, comment Synchronous presettable 4-bit binary COUNTER  (value not drawn)
footprint DIL16
part A pins: 1 !CLEAR, 2 CLK, 3 P1, 4 P2, 5 P3, 6 P4, 7 PE, 9 !LOAD, 10 TE, 11 Q4 (out), 12 Q3 (out), 13 Q2 (out), 14 Q1 (out), 15 CO (out)
part B pins: 8 VSS (power), 16 VDD (power)

## 4162D
designator IC?, comment Synchronous presettable BCD COUNTER  (value not drawn)
footprint SO16
part A pins: 1 !CLEAR, 2 CLK, 3 P1, 4 P2, 5 P3, 6 P4, 7 PE, 9 !LOAD, 10 TE, 11 Q4 (out), 12 Q3 (out), 13 Q2 (out), 14 Q1 (out), 15 CO (out)
part B pins: 8 VSS (power), 16 VDD (power)

## 4162N
designator IC?, comment Synchronous presettable BCD COUNTER  (value not drawn)
footprint DIL16
part A pins: 1 !CLEAR, 2 CLK, 3 P1, 4 P2, 5 P3, 6 P4, 7 PE, 9 !LOAD, 10 TE, 11 Q4 (out), 12 Q3 (out), 13 Q2 (out), 14 Q1 (out), 15 CO (out)
part B pins: 8 VSS (power), 16 VDD (power)

## 4163D
designator IC?, comment Synchronous presettable 4-bit binary COUNTER  (value not drawn)
footprint SO16
part A pins: 1 !CLEAR, 2 CLK, 3 P1, 4 P2, 5 P3, 6 P4, 7 PE, 9 !LOAD, 10 TE, 11 Q4 (out), 12 Q3 (out), 13 Q2 (out), 14 Q1 (out), 15 CO (out)
part B pins: 8 VSS (power), 16 VDD (power)

## 4163N
designator IC?, comment Synchronous presettable 4-bit binary COUNTER  (value not drawn)
footprint DIL16
part A pins: 1 !CLEAR, 2 CLK, 3 P1, 4 P2, 5 P3, 6 P4, 7 PE, 9 !LOAD, 10 TE, 11 Q4 (out), 12 Q3 (out), 13 Q2 (out), 14 Q1 (out), 15 CO (out)
part B pins: 8 VSS (power), 16 VDD (power)

## 4174D
designator IC?, comment Hex D FLIP FLOP  (value not drawn)
footprint SO16
part A pins: 1 !RESET, 2 Q0 (out), 3 D0, 4 D1, 5 Q1 (out), 6 D2, 7 Q2 (out), 9 CLK, 10 Q3 (out), 11 D3, 12 Q4 (out), 13 D4, 14 D5, 15 Q5 (out)
part B pins: 8 VSS (power), 16 VDD (power)

## 4174N
designator IC?, comment Hex D FLIP FLOP  (value not drawn)
footprint DIL16
part A pins: 1 !RESET, 2 Q0 (out), 3 D0, 4 D1, 5 Q1 (out), 6 D2, 7 Q2 (out), 9 CLK, 10 Q3 (out), 11 D3, 12 Q4 (out), 13 D4, 14 D5, 15 Q5 (out)
part B pins: 8 VSS (power), 16 VDD (power)

## 4175D
designator IC?, comment Quad D FLIP FLOP  (value not drawn)
footprint SO16
part A pins: 1 !RESET, 2 Q0 (out), 3 !Q0 (out), 4 D0, 5 D1, 6 !Q01 (out), 7 Q1 (out), 9 CLK, 10 Q2 (out), 11 !Q02 (out), 12 D2, 13 D3, 14 !Q03 (out), 15 Q3 (out)
part B pins: 8 VSS (power), 16 VDD (power)

## 4175N
designator IC?, comment Quad D FLIP FLOP  (value not drawn)
footprint DIL16
part A pins: 1 !RESET, 2 Q0 (out), 3 !Q0 (out), 4 D0, 5 D1, 6 !Q01 (out), 7 Q1 (out), 9 CLK, 10 Q2 (out), 11 !Q02 (out), 12 D2, 13 D3, 14 !Q03 (out), 15 Q3 (out)
part B pins: 8 VSS (power), 16 VDD (power)

## 4194D
designator IC?, comment 4-bit universal SHIFT REGISTER
footprint SO16
part A pins: 8 VSS (power), 16 VDD (power)
part B pins: 1 !RESET, 2 DSR, 3 DP0, 4 DP1, 5 DP2, 6 DP3, 7 DSL, 9 S0, 10 S1, 11 CLK, 12 Q3 (out), 13 Q2 (out), 14 Q1 (out), 15 Q0 (out)

## 4194N
designator IC?, comment 4-bit universal SHIFT REGISTER
footprint DIL16
part A pins: 8 VSS (power), 16 VDD (power)
part B pins: 1 !RESET, 2 DSR, 3 DP0, 4 DP1, 5 DP2, 6 DP3, 7 DSL, 9 S0, 10 S1, 11 CLK, 12 Q3 (out), 13 Q2 (out), 14 Q1 (out), 15 Q0 (out)

## 4415D
designator IC?, comment Quad precision TIMER/DRIVER  (value not drawn)
footprint SO16
part A pins: 1 CLK, 2 !SET, 3 SETA, 4 SETB, 5 SETC, 6 SETD, 7 !ST1, 9 ST2, 10 !DIS, 11 OD (out), 12 OC (out), 13 OB (out), 14 OA (out), 15 !INH
part B pins: 8 VSS (power), 16 VDD (power)

## 4415N
designator IC?, comment Quad precision TIMER/DRIVER  (value not drawn)
footprint DIL16
part A pins: 1 CLK, 2 !SET, 3 SETA, 4 SETB, 5 SETC, 6 SETD, 7 !ST1, 9 ST2, 10 !DIS, 11 OD (out), 12 OC (out), 13 OB (out), 14 OA (out), 15 !INH
part B pins: 8 VSS (power), 16 VDD (power)

## 4490D
designator IC?, comment Hex contact BOUNCE ELIMINATOR
footprint SO16
part A pins: 8 VSS (power), 16 VDD (power)
part B pins: 1 AIN, 2 BO (out), 3 CIN, 4 DO (out), 5 EIN, 6 FO (out), 7 OSCIN, 9 OSCOUT (out), 10 FIN, 11 EO (out), 12 DIN, 13 CO (out), 14 BIN, 15 AO (out)

## 4490N
designator IC?, comment Hex contact BOUNCE ELIMINATOR
footprint DIL16
part A pins: 8 VSS (power), 16 VDD (power)
part B pins: 1 AIN, 2 BO (out), 3 CIN, 4 DO (out), 5 EIN, 6 FO (out), 7 OSCIN, 9 OSCOUT (out), 10 FIN, 11 EO (out), 12 DIN, 13 CO (out), 14 BIN, 15 AO (out)

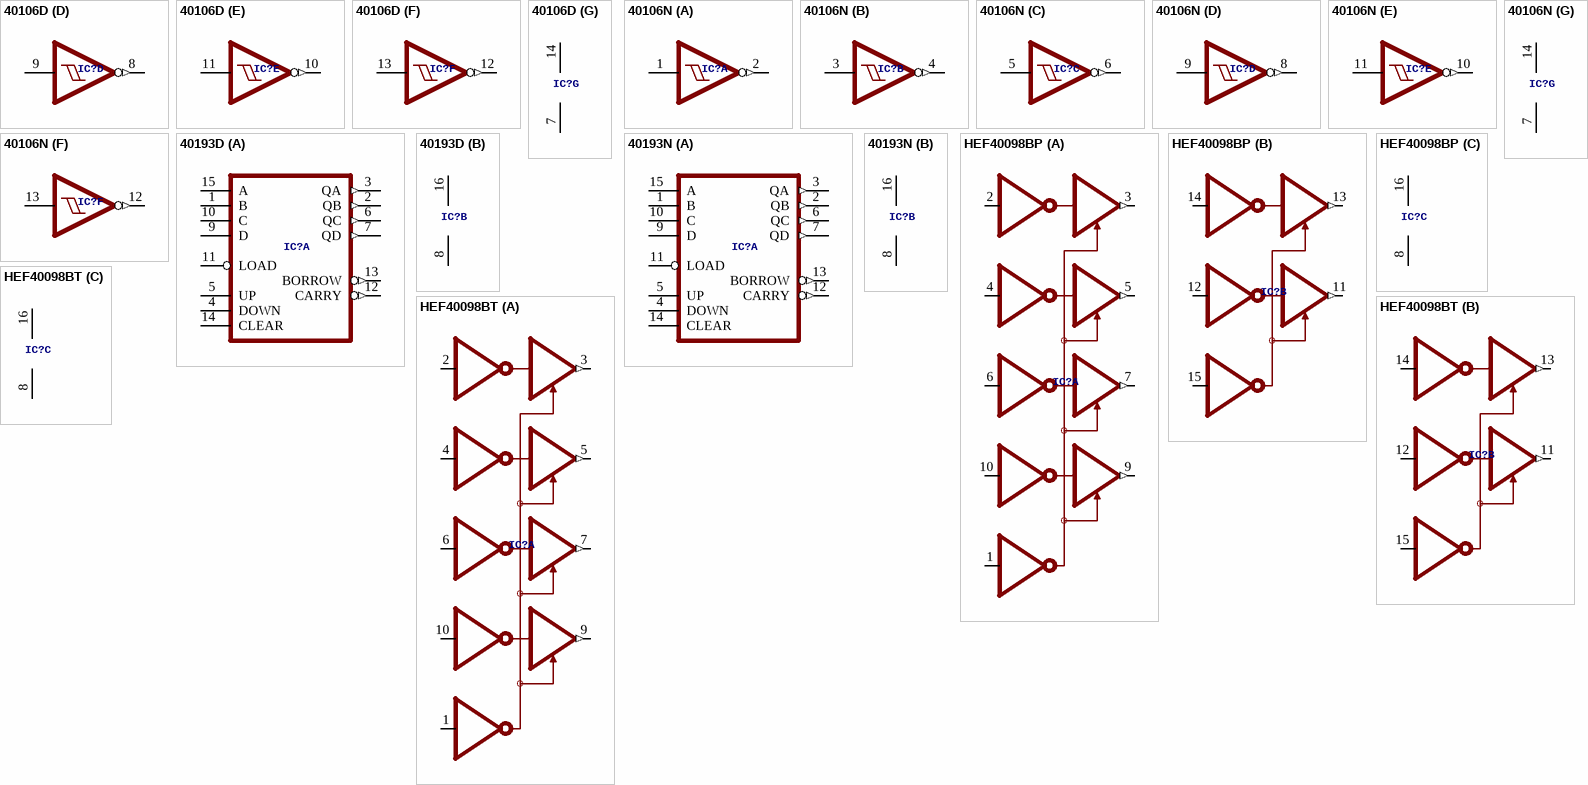
[diagram p12: symbols 40106D to HEF40098BT]

## 40106D
designator IC?, comment Hex SCHMITT TRIGGER  (value not drawn)
footprint SO14
part A pins: 1 I, 2 O (out)
part B pins: 3 I, 4 O (out)
part C pins: 5 I, 6 O (out)
part D pins: 8 O (out), 9 I
part E pins: 10 O (out), 11 I
part F pins: 12 O (out), 13 I
part G pins: 7 VSS (power), 14 VDD (power)

## 40106N
designator IC?, comment Hex SCHMITT TRIGGER  (value not drawn)
footprint DIL14
part A pins: 1 I, 2 O (out)
part B pins: 3 I, 4 O (out)
part C pins: 5 I, 6 O (out)
part D pins: 8 O (out), 9 I
part E pins: 10 O (out), 11 I
part F pins: 12 O (out), 13 I
part G pins: 7 VSS (power), 14 VDD (power)

## 40193D
designator IC?, comment Binary up down COUNTER  (value not drawn)
footprint SO16
part A pins: 1 B, 2 QB (out), 3 QA (out), 4 DOWN, 5 UP, 6 QC (out), 7 QD (out), 9 D, 10 C, 11 LOAD, 12 CARRY (out), 13 BORROW (out), 14 CLEAR, 15 A
part B pins: 8 VSS (power), 16 VDD (power)

## 40193N
designator IC?, comment Binary up down COUNTER  (value not drawn)
footprint DIL16
part A pins: 1 B, 2 QB (out), 3 QA (out), 4 DOWN, 5 UP, 6 QC (out), 7 QD (out), 9 D, 10 C, 11 LOAD, 12 CARRY (out), 13 BORROW (out), 14 CLEAR, 15 A
part B pins: 8 VSS (power), 16 VDD (power)

## HEF40098BP
designator IC?, comment Hex inverting buffer, 3-state   Source:  Data sheet  (value not drawn)
footprint DIL16
part A pins: 1 1!OE, 2 1A0, 3 1Y0 (out), 4 1A1, 5 1Y1 (out), 6 1A2, 7 1Y2 (out), 9 1Y3 (out), 10 1A3
part B pins: 11 2Y1 (out), 12 2A1, 13 2Y0 (out), 14 2A0, 15 2!OE
part C pins: 8 VSS (power), 16 VDD (power)

## HEF40098BT
designator IC?, comment Hex inverting buffer, 3-state   Source:  Data sheet  (value not drawn)
footprint SO16
part A pins: 1 1!OE, 2 1A0, 3 1Y0 (out), 4 1A1, 5 1Y1 (out), 6 1A2, 7 1Y2 (out), 9 1Y3 (out), 10 1A3
part B pins: 11 2Y1 (out), 12 2A1, 13 2Y0 (out), 14 2A0, 15 2!OE
part C pins: 8 VSS (power), 16 VDD (power)